# Altium integrated library Maxim Microcontroller.IntLib: 169 symbols (part 4 of 6)
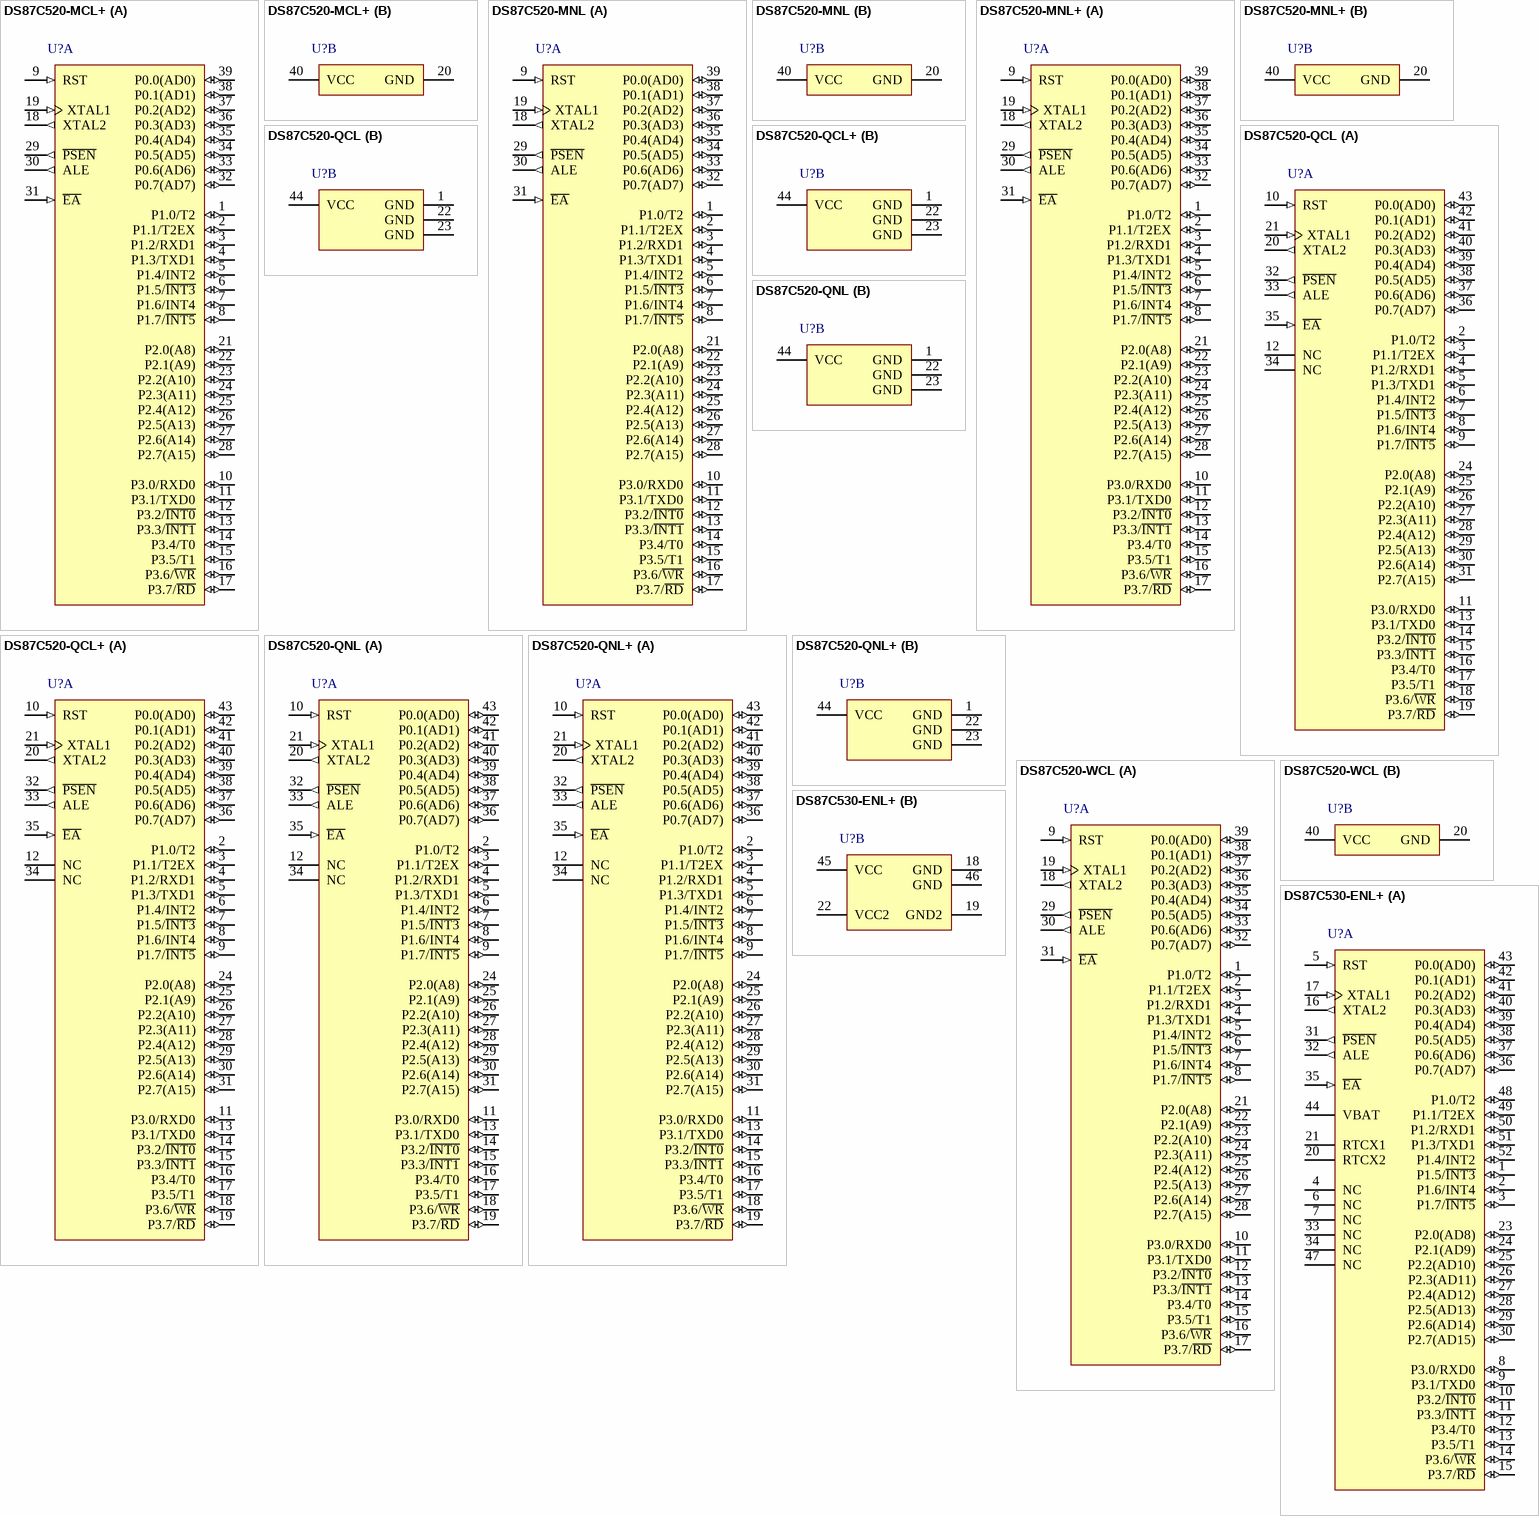
[diagram p27: symbols DS87C520-MCL+ to DS87C530-ENL+]

## DS87C520-QCL
designator U?
8-bit EPROM/ROM High-Speed Microcontroller, 33 MHz Max. Clock Speed, 44-pin PLCC, 0° to + 70° C; DatasheetVersion: 1/05/2009; PackageVersion: revE, 2009; PackageReference: Q44-9; PackageDescription: 44-Pin Plastic Leaded Chip Carrier 1.27 mm Pitch, PLCC; Code_JEDEC: MO-047-AC; Code_IPC: PLCC-44; ComponentLink1Description: Manufacturer URL; ComponentLink1URL: www.maxim-ic.com; ComponentLink2Description: Datasheet; ComponentLink2URL: http://datasheets.maxim-ic.com/en/ds/DS83C520-DS87C520.pdf
footprint Q44-9_N (Leaded Chip Carrier, 44-Leads, Body 16.6x16.6mm, Pitch 1.27mm, IPC Medium Density)
footprint Q44-9_L (Leaded Chip Carrier, 44-Leads, Body 16.6x16.6mm, Pitch 1.27mm, IPC High Density)
footprint Q44-9_M (Leaded Chip Carrier, 44-Leads, Body 16.6x16.6mm, Pitch 1.27mm, IPC Low Density)
part A pins: 2 P1.0/T2 (io), 3 P1.1/T2EX (io), 4 P1.2/RXD1 (io), 5 P1.3/TXD1 (io), 6 P1.4/INT2 (io), 7 P1.5/~{INT3} (io), 8 P1.6/INT4 (io), 9 P1.7/~{INT5} (io), 10 RST (in), 11 P3.0/RXD0 (io), 12 NC, 13 P3.1/TXD0 (io), 14 P3.2/~{INT0} (io), 15 P3.3/~{INT1} (io), 16 P3.4/T0 (io), 17 P3.5/T1 (io), 18 P3.6/~{WR} (io), 19 P3.7/~{RD} (io), 20 XTAL2 (out), 21 XTAL1 (in), 24 P2.0(A8) (io), 25 P2.1(A9) (io), 26 P2.2(A10) (io), 27 P2.3(A11) (io), 28 P2.4(A12) (io), 29 P2.5(A13) (io), 30 P2.6(A14) (io), 31 P2.7(A15) (io), 32 ~{PSEN} (out), 33 ALE (out), 34 NC, 35 ~{EA} (in), 36 P0.7(AD7) (io), 37 P0.6(AD6) (io), 38 P0.5(AD5) (io), 39 P0.4(AD4) (io), 40 P0.3(AD3) (io), 41 P0.2(AD2) (io), 42 P0.1(AD1) (io), 43 P0.0(AD0) (io)
part B pins: 1 GND (power), 22 GND (power), 23 GND (power), 44 VCC (power)

## DS87C520-QCL+
designator U?
8-bit EPROM/ROM High-Speed Microcontroller, 33 MHz Max. Clock Speed, 44-pin PLCC, 0° to + 70° C, Pb-Free; DatasheetVersion: 1/05/2009; PackageVersion: revE, 2009; PackageReference: Q44+9; PackageDescription: 44-Pin Plastic Leaded Chip Carrier 1.27 mm Pitch, PLCC, Pb-Free; Code_JEDEC: MO-047-AC; Code_IPC: PLCC-44; ComponentLink1Description: Manufacturer URL; ComponentLink1URL: www.maxim-ic.com; ComponentLink2Description: Datasheet; ComponentLink2URL: http://datasheets.maxim-ic.com/en/ds/DS83C520-DS87C520.pdf
footprint Q44+9_N (Leaded Chip Carrier, 44-Leads, Body 16.6x16.6mm, Pitch 1.27mm, IPC Medium Density)
footprint Q44+9_L (Leaded Chip Carrier, 44-Leads, Body 16.6x16.6mm, Pitch 1.27mm, IPC High Density)
footprint Q44+9_M (Leaded Chip Carrier, 44-Leads, Body 16.6x16.6mm, Pitch 1.27mm, IPC Low Density)
part A pins: 2 P1.0/T2 (io), 3 P1.1/T2EX (io), 4 P1.2/RXD1 (io), 5 P1.3/TXD1 (io), 6 P1.4/INT2 (io), 7 P1.5/~{INT3} (io), 8 P1.6/INT4 (io), 9 P1.7/~{INT5} (io), 10 RST (in), 11 P3.0/RXD0 (io), 12 NC, 13 P3.1/TXD0 (io), 14 P3.2/~{INT0} (io), 15 P3.3/~{INT1} (io), 16 P3.4/T0 (io), 17 P3.5/T1 (io), 18 P3.6/~{WR} (io), 19 P3.7/~{RD} (io), 20 XTAL2 (out), 21 XTAL1 (in), 24 P2.0(A8) (io), 25 P2.1(A9) (io), 26 P2.2(A10) (io), 27 P2.3(A11) (io), 28 P2.4(A12) (io), 29 P2.5(A13) (io), 30 P2.6(A14) (io), 31 P2.7(A15) (io), 32 ~{PSEN} (out), 33 ALE (out), 34 NC, 35 ~{EA} (in), 36 P0.7(AD7) (io), 37 P0.6(AD6) (io), 38 P0.5(AD5) (io), 39 P0.4(AD4) (io), 40 P0.3(AD3) (io), 41 P0.2(AD2) (io), 42 P0.1(AD1) (io), 43 P0.0(AD0) (io)
part B pins: 1 GND (power), 22 GND (power), 23 GND (power), 44 VCC (power)

## DS87C520-QNL
designator U?
8-bit EPROM/ROM High-Speed Microcontroller, 33 MHz Max. Clock Speed, 44-pin PLCC, -40° to + 85° C; DatasheetVersion: 1/05/2009; PackageVersion: revE, 2009; PackageReference: Q44-9; PackageDescription: 44-Pin Plastic Leaded Chip Carrier 1.27 mm Pitch, PLCC; Code_JEDEC: MO-047-AC; Code_IPC: PLCC-44; ComponentLink1Description: Manufacturer URL; ComponentLink1URL: www.maxim-ic.com; ComponentLink2Description: Datasheet; ComponentLink2URL: http://datasheets.maxim-ic.com/en/ds/DS83C520-DS87C520.pdf
footprint Q44-9_N (Leaded Chip Carrier, 44-Leads, Body 16.6x16.6mm, Pitch 1.27mm, IPC Medium Density)
footprint Q44-9_L (Leaded Chip Carrier, 44-Leads, Body 16.6x16.6mm, Pitch 1.27mm, IPC High Density)
footprint Q44-9_M (Leaded Chip Carrier, 44-Leads, Body 16.6x16.6mm, Pitch 1.27mm, IPC Low Density)
part A pins: 2 P1.0/T2 (io), 3 P1.1/T2EX (io), 4 P1.2/RXD1 (io), 5 P1.3/TXD1 (io), 6 P1.4/INT2 (io), 7 P1.5/~{INT3} (io), 8 P1.6/INT4 (io), 9 P1.7/~{INT5} (io), 10 RST (in), 11 P3.0/RXD0 (io), 12 NC, 13 P3.1/TXD0 (io), 14 P3.2/~{INT0} (io), 15 P3.3/~{INT1} (io), 16 P3.4/T0 (io), 17 P3.5/T1 (io), 18 P3.6/~{WR} (io), 19 P3.7/~{RD} (io), 20 XTAL2 (out), 21 XTAL1 (in), 24 P2.0(A8) (io), 25 P2.1(A9) (io), 26 P2.2(A10) (io), 27 P2.3(A11) (io), 28 P2.4(A12) (io), 29 P2.5(A13) (io), 30 P2.6(A14) (io), 31 P2.7(A15) (io), 32 ~{PSEN} (out), 33 ALE (out), 34 NC, 35 ~{EA} (in), 36 P0.7(AD7) (io), 37 P0.6(AD6) (io), 38 P0.5(AD5) (io), 39 P0.4(AD4) (io), 40 P0.3(AD3) (io), 41 P0.2(AD2) (io), 42 P0.1(AD1) (io), 43 P0.0(AD0) (io)
part B pins: 1 GND (power), 22 GND (power), 23 GND (power), 44 VCC (power)

## DS87C520-QNL+
designator U?
8-bit EPROM/ROM High-Speed Microcontroller, 33 MHz Max. Clock Speed, 44-pin PLCC, -40° to + 85° C, Pb-Free; DatasheetVersion: 1/05/2009; PackageVersion: revE, 2009; PackageReference: Q44+9; PackageDescription: 44-Pin Plastic Leaded Chip Carrier 1.27 mm Pitch, PLCC, Pb-Free; Code_JEDEC: MO-047-AC; Code_IPC: PLCC-44; ComponentLink1Description: Manufacturer URL; ComponentLink1URL: www.maxim-ic.com; ComponentLink2Description: Datasheet; ComponentLink2URL: http://datasheets.maxim-ic.com/en/ds/DS83C520-DS87C520.pdf
footprint Q44+9_N (Leaded Chip Carrier, 44-Leads, Body 16.6x16.6mm, Pitch 1.27mm, IPC Medium Density)
footprint Q44+9_L (Leaded Chip Carrier, 44-Leads, Body 16.6x16.6mm, Pitch 1.27mm, IPC High Density)
footprint Q44+9_M (Leaded Chip Carrier, 44-Leads, Body 16.6x16.6mm, Pitch 1.27mm, IPC Low Density)
part A pins: 2 P1.0/T2 (io), 3 P1.1/T2EX (io), 4 P1.2/RXD1 (io), 5 P1.3/TXD1 (io), 6 P1.4/INT2 (io), 7 P1.5/~{INT3} (io), 8 P1.6/INT4 (io), 9 P1.7/~{INT5} (io), 10 RST (in), 11 P3.0/RXD0 (io), 12 NC, 13 P3.1/TXD0 (io), 14 P3.2/~{INT0} (io), 15 P3.3/~{INT1} (io), 16 P3.4/T0 (io), 17 P3.5/T1 (io), 18 P3.6/~{WR} (io), 19 P3.7/~{RD} (io), 20 XTAL2 (out), 21 XTAL1 (in), 24 P2.0(A8) (io), 25 P2.1(A9) (io), 26 P2.2(A10) (io), 27 P2.3(A11) (io), 28 P2.4(A12) (io), 29 P2.5(A13) (io), 30 P2.6(A14) (io), 31 P2.7(A15) (io), 32 ~{PSEN} (out), 33 ALE (out), 34 NC, 35 ~{EA} (in), 36 P0.7(AD7) (io), 37 P0.6(AD6) (io), 38 P0.5(AD5) (io), 39 P0.4(AD4) (io), 40 P0.3(AD3) (io), 41 P0.2(AD2) (io), 42 P0.1(AD1) (io), 43 P0.0(AD0) (io)
part B pins: 1 GND (power), 22 GND (power), 23 GND (power), 44 VCC (power)

## DS87C520-WCL
designator U?
8-bit EPROM/ROM High-Speed Microcontroller, 33 MHz Max. Clock Speed, 40-pin Windowed CERDIP, 0° to + 70° C; DatasheetVersion: 1/05/2009; PackageVersion: revB, 2009; PackageReference: J40-5; PackageDescription: 40-Lead Ceramic Dual-In-Line with Glass Lens, 0.6in Wide, CDIP(W); ComponentLink1Description: Manufacturer URL; ComponentLink1URL: www.maxim-ic.com; ComponentLink2Description: Datasheet; ComponentLink2URL: http://datasheets.maxim-ic.com/en/ds/DS83C520-DS87C520.pdf
footprint J40-5 (DIP, 40-Leads, Row Spacing 15.24mm, Pitch 2.54mm, Body 53.2x14.4mm, Window)
part A pins: 1 P1.0/T2 (io), 2 P1.1/T2EX (io), 3 P1.2/RXD1 (io), 4 P1.3/TXD1 (io), 5 P1.4/INT2 (io), 6 P1.5/~{INT3} (io), 7 P1.6/INT4 (io), 8 P1.7/~{INT5} (io), 9 RST (in), 10 P3.0/RXD0 (io), 11 P3.1/TXD0 (io), 12 P3.2/~{INT0} (io), 13 P3.3/~{INT1} (io), 14 P3.4/T0 (io), 15 P3.5/T1 (io), 16 P3.6/~{WR} (io), 17 P3.7/~{RD} (io), 18 XTAL2 (out), 19 XTAL1 (in), 21 P2.0(A8) (io), 22 P2.1(A9) (io), 23 P2.2(A10) (io), 24 P2.3(A11) (io), 25 P2.4(A12) (io), 26 P2.5(A13) (io), 27 P2.6(A14) (io), 28 P2.7(A15) (io), 29 ~{PSEN} (out), 30 ALE (out), 31 ~{EA} (in), 32 P0.7(AD7) (io), 33 P0.6(AD6) (io), 34 P0.5(AD5) (io), 35 P0.4(AD4) (io), 36 P0.3(AD3) (io), 37 P0.2(AD2) (io), 38 P0.1(AD1) (io), 39 P0.0(AD0) (io)
part B pins: 20 GND (power), 40 VCC (power)

## DS87C530-ENL+
designator U?
8-bit EPROM/ROM Microcontroller with Real-Time Clock, 33 MHz Max. Clock Speed, 52-pin TQFP, -40° to + 85° C, Pb-Free; DatasheetVersion: 1/05/2009; PackageVersion: revB, 2009; PackageReference: C52+2; PackageDescription: 52-Pin Thin Quad Flat Pack, 10x10x1.0mm Body, 1.0/0.1mm Form, TQFP, Pb-Free; Code_JEDEC: MS-026-ACC; ComponentLink1Description: Manufacturer URL; ComponentLink1URL: www.maxim-ic.com; ComponentLink2Description: Datasheet; ComponentLink2URL: http://datasheets.maxim-ic.com/en/ds/DS83C530-DS87C530.pdf
footprint C52+2_N (Thin QFP, 52-Leads, Body 10 x 10mm, Pitch 0.65mm, IPC Medium Density)
footprint C52+2_L (Thin QFP, 52-Leads, Body 10 x 10mm, Pitch 0.65mm, IPC High Density)
footprint C52+2_M (Thin QFP, 52-Leads, Body 10 x 10mm, Pitch 0.65mm, IPC Low Density)
part A pins: 1 P1.5/~{INT3} (io), 2 P1.6/INT4 (io), 3 P1.7/~{INT5} (io), 4 NC, 5 RST (in), 6 NC, 7 NC, 8 P3.0/RXD0 (io), 9 P3.1/TXD0 (io), 10 P3.2/~{INT0} (io), 11 P3.3/~{INT1} (io), 12 P3.4/T0 (io), 13 P3.5/T1 (io), 14 P3.6/~{WR} (io), 15 P3.7/~{RD} (io), 16 XTAL2 (out), 17 XTAL1 (in), 20 RTCX2, 21 RTCX1, 23 P2.0(AD8) (io), 24 P2.1(AD9) (io), 25 P2.2(AD10) (io), 26 P2.3(AD11) (io), 27 P2.4(AD12) (io), 28 P2.5(AD13) (io), 29 P2.6(AD14) (io), 30 P2.7(AD15) (io), 31 ~{PSEN} (out), 32 ALE (out), 33 NC, 34 NC, 35 ~{EA} (in), 36 P0.7(AD7) (io), 37 P0.6(AD6) (io), 38 P0.5(AD5) (io), 39 P0.4(AD4) (io), 40 P0.3(AD3) (io), 41 P0.2(AD2) (io), 42 P0.1(AD1) (io), 43 P0.0(AD0) (io), 44 VBAT, 47 NC, 48 P1.0/T2 (io), 49 P1.1/T2EX (io), 50 P1.2/RXD1 (io), 51 P1.3/TXD1 (io), 52 P1.4/INT2 (io)
part B pins: 18 GND (power), 19 GND2 (power), 22 VCC2 (power), 45 VCC (power), 46 GND (power)

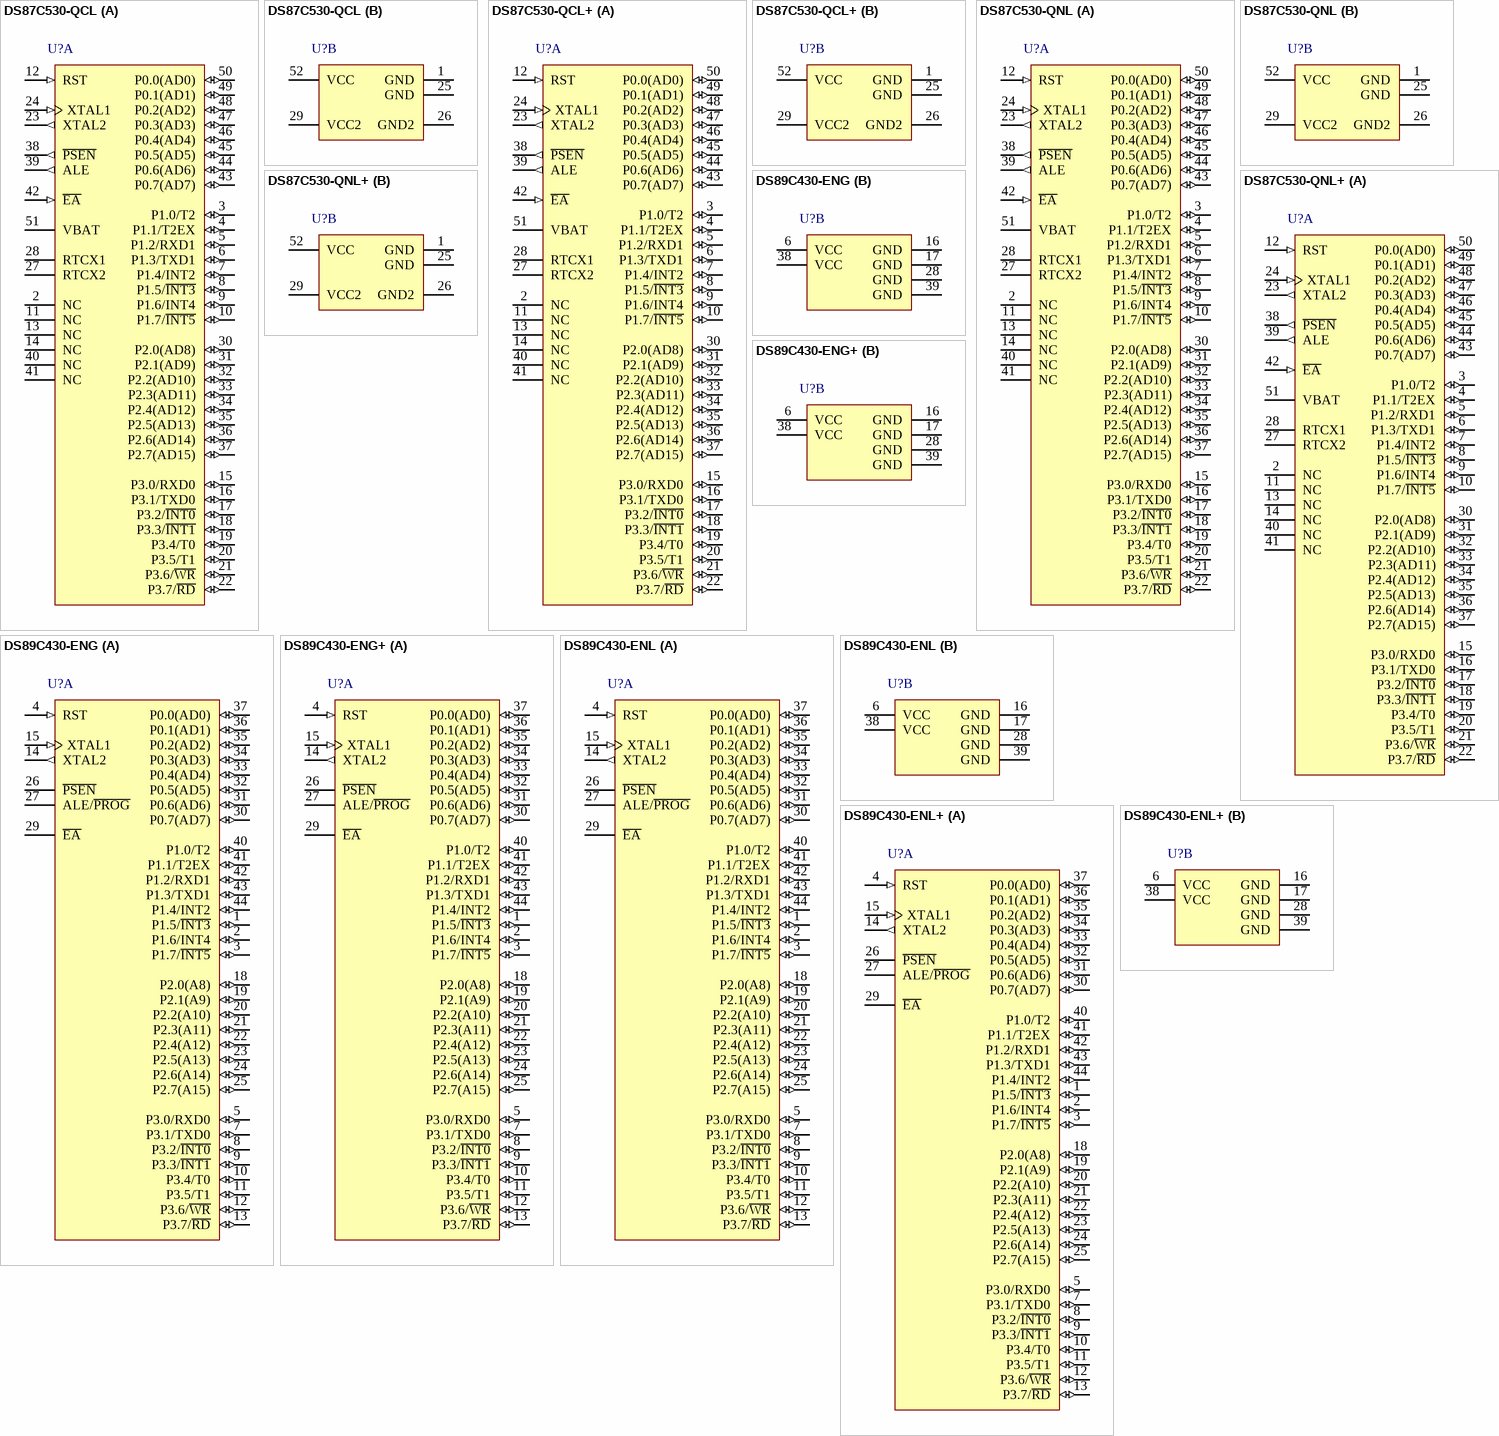
[diagram p13: symbols DS87C530-QCL to DS89C430-ENL+]

## DS87C530-QCL
designator U?
8-bit EPROM/ROM Microcontroller with Real-Time Clock, 33 MHz Max. Clock Speed, 52-pin PLCC, 0° to + 70° C; DatasheetVersion: 1/05/2009; PackageVersion: revE, 2009; PackageReference: Q52-1; PackageDescription: 52-Pin Plastic Leaded Chip Carrier 1.27 mm Pitch, PLCC; Code_JEDEC: MO-047-AD; ComponentLink1Description: Manufacturer URL; ComponentLink1URL: www.maxim-ic.com; ComponentLink2Description: Datasheet; ComponentLink2URL: http://datasheets.maxim-ic.com/en/ds/DS83C530-DS87C530.pdf
footprint Q52-1_N (Leaded Chip Carrier, 52-Leads, Body 19.1x19.1mm, Pitch 1.27mm, IPC Medium Density)
footprint Q52-1_L (Leaded Chip Carrier, 52-Leads, Body 19.1x19.1mm, Pitch 1.27mm, IPC High Density)
footprint Q52-1_M (Leaded Chip Carrier, 52-Leads, Body 19.1x19.1mm, Pitch 1.27mm, IPC Low Density)
part A pins: 2 NC, 3 P1.0/T2 (io), 4 P1.1/T2EX (io), 5 P1.2/RXD1 (io), 6 P1.3/TXD1 (io), 7 P1.4/INT2 (io), 8 P1.5/~{INT3} (io), 9 P1.6/INT4 (io), 10 P1.7/~{INT5} (io), 11 NC, 12 RST (in), 13 NC, 14 NC, 15 P3.0/RXD0 (io), 16 P3.1/TXD0 (io), 17 P3.2/~{INT0} (io), 18 P3.3/~{INT1} (io), 19 P3.4/T0 (io), 20 P3.5/T1 (io), 21 P3.6/~{WR} (io), 22 P3.7/~{RD} (io), 23 XTAL2 (out), 24 XTAL1 (in), 27 RTCX2, 28 RTCX1, 30 P2.0(AD8) (io), 31 P2.1(AD9) (io), 32 P2.2(AD10) (io), 33 P2.3(AD11) (io), 34 P2.4(AD12) (io), 35 P2.5(AD13) (io), 36 P2.6(AD14) (io), 37 P2.7(AD15) (io), 38 ~{PSEN} (out), 39 ALE (out), 40 NC, 41 NC, 42 ~{EA} (in), 43 P0.7(AD7) (io), 44 P0.6(AD6) (io), 45 P0.5(AD5) (io), 46 P0.4(AD4) (io), 47 P0.3(AD3) (io), 48 P0.2(AD2) (io), 49 P0.1(AD1) (io), 50 P0.0(AD0) (io), 51 VBAT
part B pins: 1 GND (power), 25 GND (power), 26 GND2 (power), 29 VCC2 (power), 52 VCC (power)

## DS87C530-QCL+
designator U?
8-bit EPROM/ROM Microcontroller with Real-Time Clock, 33 MHz Max. Clock Speed, 52-pin PLCC, 0° to + 70° C, Pb-Free; DatasheetVersion: 1/05/2009; PackageVersion: revE, 2009; PackageReference: Q52+1; PackageDescription: 52-Pin Plastic Leaded Chip Carrier 1.27 mm Pitch, PLCC, Pb-Free; Code_JEDEC: MO-047-AD; ComponentLink1Description: Manufacturer URL; ComponentLink1URL: www.maxim-ic.com; ComponentLink2Description: Datasheet; ComponentLink2URL: http://datasheets.maxim-ic.com/en/ds/DS83C530-DS87C530.pdf
footprint Q52+1_N (Leaded Chip Carrier, 52-Leads, Body 19.1x19.1mm, Pitch 1.27mm, IPC Medium Density)
footprint Q52+1_L (Leaded Chip Carrier, 52-Leads, Body 19.1x19.1mm, Pitch 1.27mm, IPC High Density)
footprint Q52+1_M (Leaded Chip Carrier, 52-Leads, Body 19.1x19.1mm, Pitch 1.27mm, IPC Low Density)
part A pins: 2 NC, 3 P1.0/T2 (io), 4 P1.1/T2EX (io), 5 P1.2/RXD1 (io), 6 P1.3/TXD1 (io), 7 P1.4/INT2 (io), 8 P1.5/~{INT3} (io), 9 P1.6/INT4 (io), 10 P1.7/~{INT5} (io), 11 NC, 12 RST (in), 13 NC, 14 NC, 15 P3.0/RXD0 (io), 16 P3.1/TXD0 (io), 17 P3.2/~{INT0} (io), 18 P3.3/~{INT1} (io), 19 P3.4/T0 (io), 20 P3.5/T1 (io), 21 P3.6/~{WR} (io), 22 P3.7/~{RD} (io), 23 XTAL2 (out), 24 XTAL1 (in), 27 RTCX2, 28 RTCX1, 30 P2.0(AD8) (io), 31 P2.1(AD9) (io), 32 P2.2(AD10) (io), 33 P2.3(AD11) (io), 34 P2.4(AD12) (io), 35 P2.5(AD13) (io), 36 P2.6(AD14) (io), 37 P2.7(AD15) (io), 38 ~{PSEN} (out), 39 ALE (out), 40 NC, 41 NC, 42 ~{EA} (in), 43 P0.7(AD7) (io), 44 P0.6(AD6) (io), 45 P0.5(AD5) (io), 46 P0.4(AD4) (io), 47 P0.3(AD3) (io), 48 P0.2(AD2) (io), 49 P0.1(AD1) (io), 50 P0.0(AD0) (io), 51 VBAT
part B pins: 1 GND (power), 25 GND (power), 26 GND2 (power), 29 VCC2 (power), 52 VCC (power)

## DS87C530-QNL
designator U?
8-bit EPROM/ROM Microcontroller with Real-Time Clock, 33 MHz Max. Clock Speed, 52-pin PLCC, -40° to + 85° C; DatasheetVersion: 1/05/2009; PackageVersion: revE, 2009; PackageReference: Q52-1; PackageDescription: 52-Pin Plastic Leaded Chip Carrier 1.27 mm Pitch, PLCC; Code_JEDEC: MO-047-AD; ComponentLink1Description: Manufacturer URL; ComponentLink1URL: www.maxim-ic.com; ComponentLink2Description: Datasheet; ComponentLink2URL: http://datasheets.maxim-ic.com/en/ds/DS83C530-DS87C530.pdf
footprint Q52-1_N (Leaded Chip Carrier, 52-Leads, Body 19.1x19.1mm, Pitch 1.27mm, IPC Medium Density)
footprint Q52-1_L (Leaded Chip Carrier, 52-Leads, Body 19.1x19.1mm, Pitch 1.27mm, IPC High Density)
footprint Q52-1_M (Leaded Chip Carrier, 52-Leads, Body 19.1x19.1mm, Pitch 1.27mm, IPC Low Density)
part A pins: 2 NC, 3 P1.0/T2 (io), 4 P1.1/T2EX (io), 5 P1.2/RXD1 (io), 6 P1.3/TXD1 (io), 7 P1.4/INT2 (io), 8 P1.5/~{INT3} (io), 9 P1.6/INT4 (io), 10 P1.7/~{INT5} (io), 11 NC, 12 RST (in), 13 NC, 14 NC, 15 P3.0/RXD0 (io), 16 P3.1/TXD0 (io), 17 P3.2/~{INT0} (io), 18 P3.3/~{INT1} (io), 19 P3.4/T0 (io), 20 P3.5/T1 (io), 21 P3.6/~{WR} (io), 22 P3.7/~{RD} (io), 23 XTAL2 (out), 24 XTAL1 (in), 27 RTCX2, 28 RTCX1, 30 P2.0(AD8) (io), 31 P2.1(AD9) (io), 32 P2.2(AD10) (io), 33 P2.3(AD11) (io), 34 P2.4(AD12) (io), 35 P2.5(AD13) (io), 36 P2.6(AD14) (io), 37 P2.7(AD15) (io), 38 ~{PSEN} (out), 39 ALE (out), 40 NC, 41 NC, 42 ~{EA} (in), 43 P0.7(AD7) (io), 44 P0.6(AD6) (io), 45 P0.5(AD5) (io), 46 P0.4(AD4) (io), 47 P0.3(AD3) (io), 48 P0.2(AD2) (io), 49 P0.1(AD1) (io), 50 P0.0(AD0) (io), 51 VBAT
part B pins: 1 GND (power), 25 GND (power), 26 GND2 (power), 29 VCC2 (power), 52 VCC (power)

## DS87C530-QNL+
designator U?
8-bit EPROM/ROM Microcontroller with Real-Time Clock, 33 MHz Max. Clock Speed, 52-pin PLCC, -40° to + 85° C, Pb-Free; DatasheetVersion: 1/05/2009; PackageVersion: revE, 2009; PackageReference: Q52+1; PackageDescription: 52-Pin Plastic Leaded Chip Carrier 1.27 mm Pitch, PLCC, Pb-Free; Code_JEDEC: MO-047-AD; ComponentLink1Description: Manufacturer URL; ComponentLink1URL: www.maxim-ic.com; ComponentLink2Description: Datasheet; ComponentLink2URL: http://datasheets.maxim-ic.com/en/ds/DS83C530-DS87C530.pdf
footprint Q52+1_N (Leaded Chip Carrier, 52-Leads, Body 19.1x19.1mm, Pitch 1.27mm, IPC Medium Density)
footprint Q52+1_L (Leaded Chip Carrier, 52-Leads, Body 19.1x19.1mm, Pitch 1.27mm, IPC High Density)
footprint Q52+1_M (Leaded Chip Carrier, 52-Leads, Body 19.1x19.1mm, Pitch 1.27mm, IPC Low Density)
part A pins: 2 NC, 3 P1.0/T2 (io), 4 P1.1/T2EX (io), 5 P1.2/RXD1 (io), 6 P1.3/TXD1 (io), 7 P1.4/INT2 (io), 8 P1.5/~{INT3} (io), 9 P1.6/INT4 (io), 10 P1.7/~{INT5} (io), 11 NC, 12 RST (in), 13 NC, 14 NC, 15 P3.0/RXD0 (io), 16 P3.1/TXD0 (io), 17 P3.2/~{INT0} (io), 18 P3.3/~{INT1} (io), 19 P3.4/T0 (io), 20 P3.5/T1 (io), 21 P3.6/~{WR} (io), 22 P3.7/~{RD} (io), 23 XTAL2 (out), 24 XTAL1 (in), 27 RTCX2, 28 RTCX1, 30 P2.0(AD8) (io), 31 P2.1(AD9) (io), 32 P2.2(AD10) (io), 33 P2.3(AD11) (io), 34 P2.4(AD12) (io), 35 P2.5(AD13) (io), 36 P2.6(AD14) (io), 37 P2.7(AD15) (io), 38 ~{PSEN} (out), 39 ALE (out), 40 NC, 41 NC, 42 ~{EA} (in), 43 P0.7(AD7) (io), 44 P0.6(AD6) (io), 45 P0.5(AD5) (io), 46 P0.4(AD4) (io), 47 P0.3(AD3) (io), 48 P0.2(AD2) (io), 49 P0.1(AD1) (io), 50 P0.0(AD0) (io), 51 VBAT
part B pins: 1 GND (power), 25 GND (power), 26 GND2 (power), 29 VCC2 (power), 52 VCC (power)

## DS89C430-ENG
designator U?
8-bit Ultra-High-Speed Flash Microcontroller, 25 MHz Max. Clock Speed, 44-pin TQFP, -40° to + 85° C; DatasheetVersion: 1/05/2009; PackageVersion: revB, 2010; PackageReference: C44-2; PackageDescription: 44-Pin Thin Quad Flatpack, 10 x 10 x 1.0 mm Body, 0.8 mm Pitch, TQFP; ComponentLink1Description: Manufacturer URL; ComponentLink1URL: www.maxim-ic.com; ComponentLink2Description: Datasheet; ComponentLink2URL: http://datasheets.maxim-ic.com/en/ds/DS89C430-DS89C450.pdf
footprint C44-2_N (Thin QFP, 44-Leads, Body 10x10mm, Pitch 0.8mm, IPC Medium Density)
footprint C44-2_L (Thin QFP, 44-Leads, Body 10x10mm, Pitch 0.8mm, IPC High Density)
footprint C44-2_M (Thin QFP, 44-Leads, Body 10x10mm, Pitch 0.8mm, IPC Low Density)
part A pins: 1 P1.5/~{INT3} (io), 2 P1.6/INT4 (io), 3 P1.7/~{INT5} (io), 4 RST (in), 5 P3.0/RXD0 (io), 7 P3.1/TXD0 (io), 8 P3.2/~{INT0} (io), 9 P3.3/~{INT1} (io), 10 P3.4/T0 (io), 11 P3.5/T1 (io), 12 P3.6/~{WR} (io), 13 P3.7/~{RD} (io), 14 XTAL2 (out), 15 XTAL1 (in), 18 P2.0(A8) (io), 19 P2.1(A9) (io), 20 P2.2(A10) (io), 21 P2.3(A11) (io), 22 P2.4(A12) (io), 23 P2.5(A13) (io), 24 P2.6(A14) (io), 25 P2.7(A15) (io), 26 ~{PSEN}, 27 ALE/~{PROG}, 29 ~{EA}, 30 P0.7(AD7) (io), 31 P0.6(AD6) (io), 32 P0.5(AD5) (io), 33 P0.4(AD4) (io), 34 P0.3(AD3) (io), 35 P0.2(AD2) (io), 36 P0.1(AD1) (io), 37 P0.0(AD0) (io), 40 P1.0/T2 (io), 41 P1.1/T2EX (io), 42 P1.2/RXD1 (io), 43 P1.3/TXD1 (io), 44 P1.4/INT2 (io)
part B pins: 6 VCC (power), 16 GND (power), 17 GND (power), 28 GND (power), 38 VCC (power), 39 GND (power)

## DS89C430-ENG+
designator U?
8-bit Ultra-High-Speed Flash Microcontroller, 25 MHz Max. Clock Speed, 44-pin TQFP, -40° to + 85° C, Pb-Free; DatasheetVersion: 1/05/2009; PackageVersion: revB, 2010; PackageReference: C44+2; PackageDescription: 44-Pin Thin Quad Flatpack, 10 x 10 x 1.0 mm Body, 0.8 mm Pitch, TQFP, Pb-Free; ComponentLink1Description: Manufacturer URL; ComponentLink1URL: www.maxim-ic.com; ComponentLink2Description: Datasheet; ComponentLink2URL: http://datasheets.maxim-ic.com/en/ds/DS89C430-DS89C450.pdf
footprint C44+2_N (Thin QFP, 44-Leads, Body 10x10mm, Pitch 0.8mm, IPC Medium Density)
footprint C44+2_L (Thin QFP, 44-Leads, Body 10x10mm, Pitch 0.8mm, IPC High Density)
footprint C44+2_M (Thin QFP, 44-Leads, Body 10x10mm, Pitch 0.8mm, IPC Low Density)
part A pins: 1 P1.5/~{INT3} (io), 2 P1.6/INT4 (io), 3 P1.7/~{INT5} (io), 4 RST (in), 5 P3.0/RXD0 (io), 7 P3.1/TXD0 (io), 8 P3.2/~{INT0} (io), 9 P3.3/~{INT1} (io), 10 P3.4/T0 (io), 11 P3.5/T1 (io), 12 P3.6/~{WR} (io), 13 P3.7/~{RD} (io), 14 XTAL2 (out), 15 XTAL1 (in), 18 P2.0(A8) (io), 19 P2.1(A9) (io), 20 P2.2(A10) (io), 21 P2.3(A11) (io), 22 P2.4(A12) (io), 23 P2.5(A13) (io), 24 P2.6(A14) (io), 25 P2.7(A15) (io), 26 ~{PSEN}, 27 ALE/~{PROG}, 29 ~{EA}, 30 P0.7(AD7) (io), 31 P0.6(AD6) (io), 32 P0.5(AD5) (io), 33 P0.4(AD4) (io), 34 P0.3(AD3) (io), 35 P0.2(AD2) (io), 36 P0.1(AD1) (io), 37 P0.0(AD0) (io), 40 P1.0/T2 (io), 41 P1.1/T2EX (io), 42 P1.2/RXD1 (io), 43 P1.3/TXD1 (io), 44 P1.4/INT2 (io)
part B pins: 6 VCC (power), 16 GND (power), 17 GND (power), 28 GND (power), 38 VCC (power), 39 GND (power)

## DS89C430-ENL
designator U?
8-bit Ultra-High-Speed Flash Microcontroller, 33 MHz Max. Clock Speed, 44-pin TQFP, -40° to + 85° C; DatasheetVersion: 1/05/2009; PackageVersion: revB, 2010; PackageReference: C44-2; PackageDescription: 44-Pin Thin Quad Flatpack, 10 x 10 x 1.0 mm Body, 0.8 mm Pitch, TQFP; ComponentLink1Description: Manufacturer URL; ComponentLink1URL: www.maxim-ic.com; ComponentLink2Description: Datasheet; ComponentLink2URL: http://datasheets.maxim-ic.com/en/ds/DS89C430-DS89C450.pdf
footprint C44-2_N (Thin QFP, 44-Leads, Body 10x10mm, Pitch 0.8mm, IPC Medium Density)
footprint C44-2_L (Thin QFP, 44-Leads, Body 10x10mm, Pitch 0.8mm, IPC High Density)
footprint C44-2_M (Thin QFP, 44-Leads, Body 10x10mm, Pitch 0.8mm, IPC Low Density)
part A pins: 1 P1.5/~{INT3} (io), 2 P1.6/INT4 (io), 3 P1.7/~{INT5} (io), 4 RST (in), 5 P3.0/RXD0 (io), 7 P3.1/TXD0 (io), 8 P3.2/~{INT0} (io), 9 P3.3/~{INT1} (io), 10 P3.4/T0 (io), 11 P3.5/T1 (io), 12 P3.6/~{WR} (io), 13 P3.7/~{RD} (io), 14 XTAL2 (out), 15 XTAL1 (in), 18 P2.0(A8) (io), 19 P2.1(A9) (io), 20 P2.2(A10) (io), 21 P2.3(A11) (io), 22 P2.4(A12) (io), 23 P2.5(A13) (io), 24 P2.6(A14) (io), 25 P2.7(A15) (io), 26 ~{PSEN}, 27 ALE/~{PROG}, 29 ~{EA}, 30 P0.7(AD7) (io), 31 P0.6(AD6) (io), 32 P0.5(AD5) (io), 33 P0.4(AD4) (io), 34 P0.3(AD3) (io), 35 P0.2(AD2) (io), 36 P0.1(AD1) (io), 37 P0.0(AD0) (io), 40 P1.0/T2 (io), 41 P1.1/T2EX (io), 42 P1.2/RXD1 (io), 43 P1.3/TXD1 (io), 44 P1.4/INT2 (io)
part B pins: 6 VCC (power), 16 GND (power), 17 GND (power), 28 GND (power), 38 VCC (power), 39 GND (power)

## DS89C430-ENL+
designator U?
8-bit Ultra-High-Speed Flash Microcontroller, 33 MHz Max. Clock Speed, 44-pin TQFP, -40° to + 85° C, Pb-Free; DatasheetVersion: 1/05/2009; PackageVersion: revB, 2010; PackageReference: C44+2; PackageDescription: 44-Pin Thin Quad Flatpack, 10 x 10 x 1.0 mm Body, 0.8 mm Pitch, TQFP, Pb-Free; ComponentLink1Description: Manufacturer URL; ComponentLink1URL: www.maxim-ic.com; ComponentLink2Description: Datasheet; ComponentLink2URL: http://datasheets.maxim-ic.com/en/ds/DS89C430-DS89C450.pdf
footprint C44+2_N (Thin QFP, 44-Leads, Body 10x10mm, Pitch 0.8mm, IPC Medium Density)
footprint C44+2_L (Thin QFP, 44-Leads, Body 10x10mm, Pitch 0.8mm, IPC High Density)
footprint C44+2_M (Thin QFP, 44-Leads, Body 10x10mm, Pitch 0.8mm, IPC Low Density)
part A pins: 1 P1.5/~{INT3} (io), 2 P1.6/INT4 (io), 3 P1.7/~{INT5} (io), 4 RST (in), 5 P3.0/RXD0 (io), 7 P3.1/TXD0 (io), 8 P3.2/~{INT0} (io), 9 P3.3/~{INT1} (io), 10 P3.4/T0 (io), 11 P3.5/T1 (io), 12 P3.6/~{WR} (io), 13 P3.7/~{RD} (io), 14 XTAL2 (out), 15 XTAL1 (in), 18 P2.0(A8) (io), 19 P2.1(A9) (io), 20 P2.2(A10) (io), 21 P2.3(A11) (io), 22 P2.4(A12) (io), 23 P2.5(A13) (io), 24 P2.6(A14) (io), 25 P2.7(A15) (io), 26 ~{PSEN}, 27 ALE/~{PROG}, 29 ~{EA}, 30 P0.7(AD7) (io), 31 P0.6(AD6) (io), 32 P0.5(AD5) (io), 33 P0.4(AD4) (io), 34 P0.3(AD3) (io), 35 P0.2(AD2) (io), 36 P0.1(AD1) (io), 37 P0.0(AD0) (io), 40 P1.0/T2 (io), 41 P1.1/T2EX (io), 42 P1.2/RXD1 (io), 43 P1.3/TXD1 (io), 44 P1.4/INT2 (io)
part B pins: 6 VCC (power), 16 GND (power), 17 GND (power), 28 GND (power), 38 VCC (power), 39 GND (power)

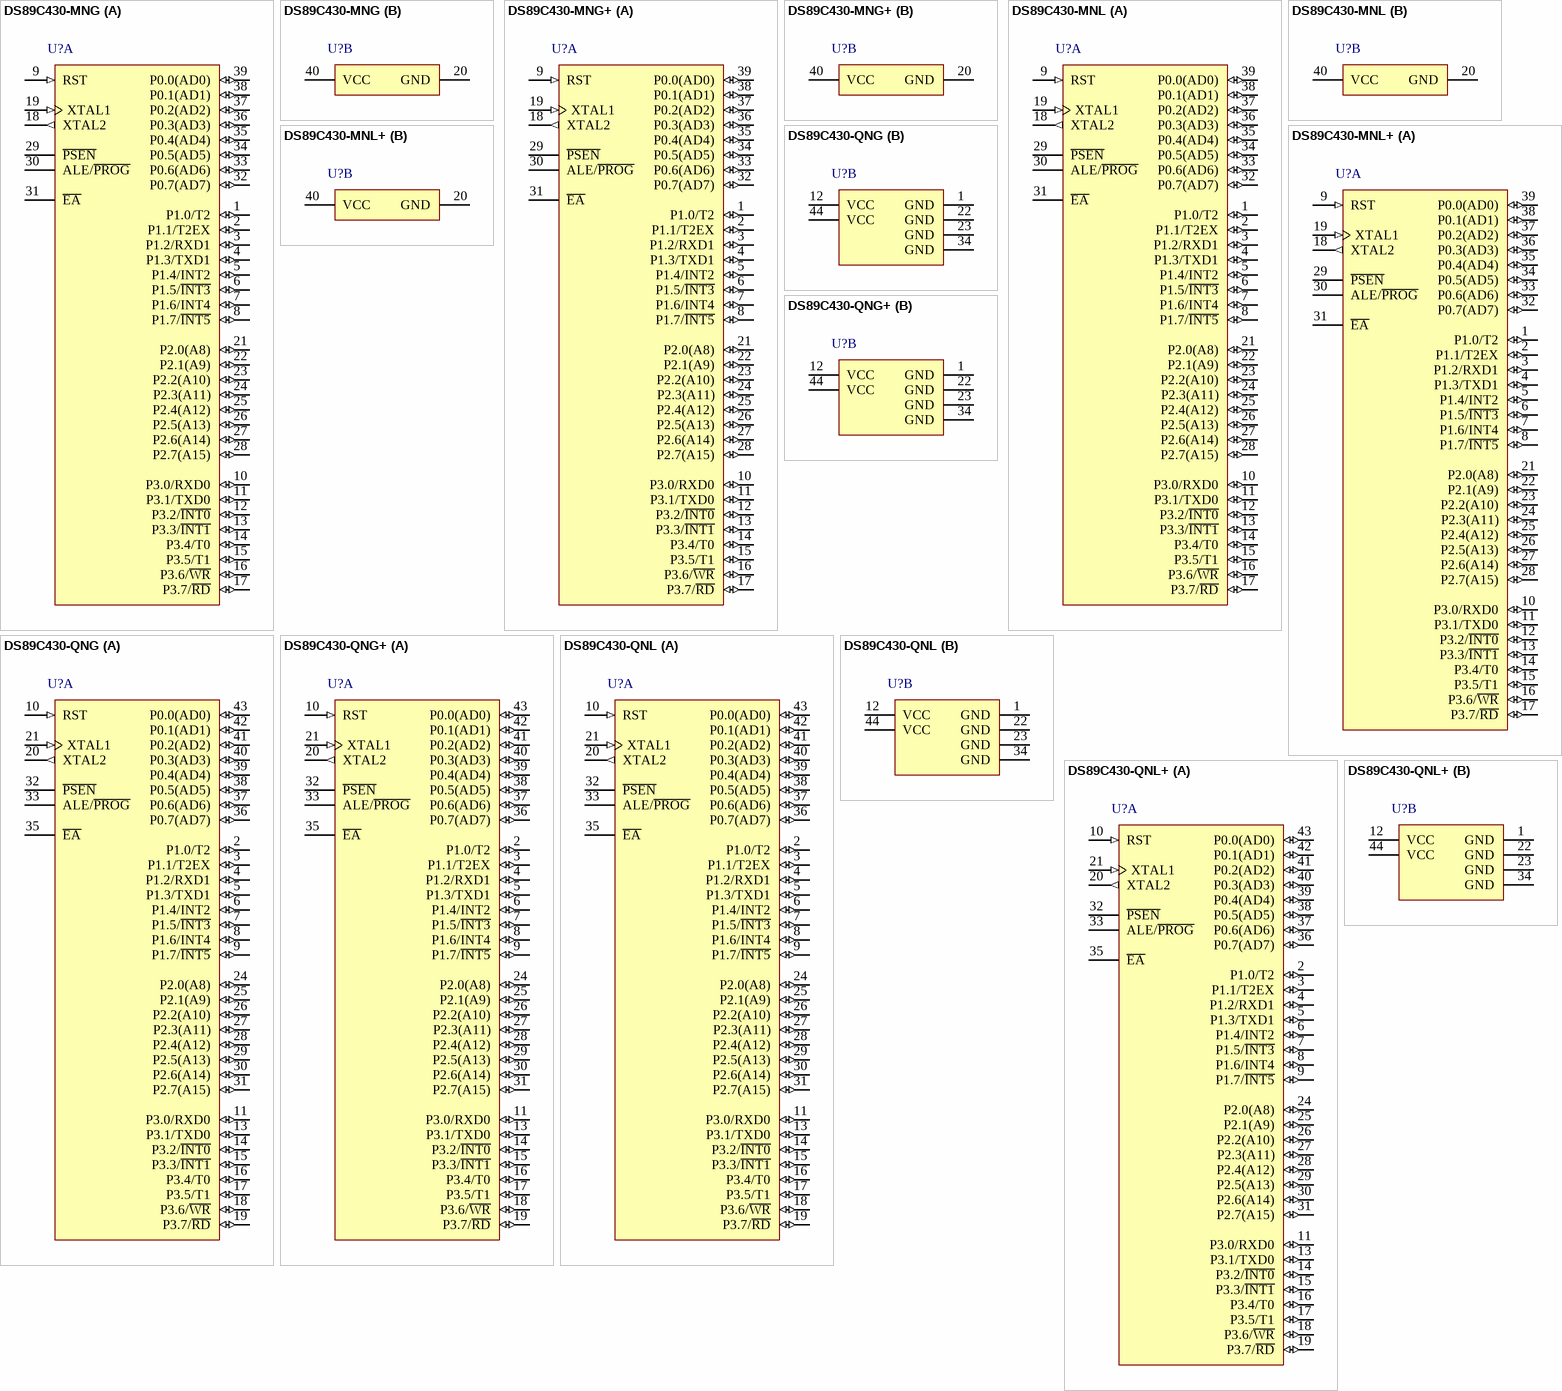
[diagram p14: symbols DS89C430-MNG to DS89C430-QNL+]

## DS89C430-MNG
designator U?
8-bit Ultra-High-Speed Flash Microcontroller, 25 MHz Max. Clock Speed, 40-pin PDIP, -40° to + 85° C; DatasheetVersion: 1/05/2009; PackageVersion: revD, 2011; PackageReference: P40-2; PackageDescription: 40-Pin Plastic Dual-In-Line, 0.6in Wide, PDIP(W); Code_JEDEC: MS-011-AC; ComponentLink1Description: Manufacturer URL; ComponentLink1URL: www.maxim-ic.com; ComponentLink2Description: Datasheet; ComponentLink2URL: http://datasheets.maxim-ic.com/en/ds/DS89C430-DS89C450.pdf
footprint P40-2 (DIP, 40-Leads, Row Spacing 15.24mm, Pitch 2.54mm, Body 52.1x14mm)
part A pins: 1 P1.0/T2 (io), 2 P1.1/T2EX (io), 3 P1.2/RXD1 (io), 4 P1.3/TXD1 (io), 5 P1.4/INT2 (io), 6 P1.5/~{INT3} (io), 7 P1.6/INT4 (io), 8 P1.7/~{INT5} (io), 9 RST (in), 10 P3.0/RXD0 (io), 11 P3.1/TXD0 (io), 12 P3.2/~{INT0} (io), 13 P3.3/~{INT1} (io), 14 P3.4/T0 (io), 15 P3.5/T1 (io), 16 P3.6/~{WR} (io), 17 P3.7/~{RD} (io), 18 XTAL2 (out), 19 XTAL1 (in), 21 P2.0(A8) (io), 22 P2.1(A9) (io), 23 P2.2(A10) (io), 24 P2.3(A11) (io), 25 P2.4(A12) (io), 26 P2.5(A13) (io), 27 P2.6(A14) (io), 28 P2.7(A15) (io), 29 ~{PSEN}, 30 ALE/~{PROG}, 31 ~{EA}, 32 P0.7(AD7) (io), 33 P0.6(AD6) (io), 34 P0.5(AD5) (io), 35 P0.4(AD4) (io), 36 P0.3(AD3) (io), 37 P0.2(AD2) (io), 38 P0.1(AD1) (io), 39 P0.0(AD0) (io)
part B pins: 20 GND (power), 40 VCC (power)

## DS89C430-MNG+
designator U?
8-bit Ultra-High-Speed Flash Microcontroller, 25 MHz Max. Clock Speed, 40-pin PDIP, -40° to + 85° C, Pb-Free; DatasheetVersion: 1/05/2009; PackageVersion: revD, 2011; PackageReference: P40+4; PackageDescription: 40-Pin Plastic Dual-In-Line, 0.6in Wide, PDIP(W), Pb-Free; Code_JEDEC: MS-011-AC; ComponentLink1Description: Manufacturer URL; ComponentLink1URL: www.maxim-ic.com; ComponentLink2Description: Datasheet; ComponentLink2URL: http://datasheets.maxim-ic.com/en/ds/DS89C430-DS89C450.pdf
footprint P40+4 (DIP, 40-Leads, Row Spacing 15.24mm, Pitch 2.54mm, Body 52.1x14mm)
part A pins: 1 P1.0/T2 (io), 2 P1.1/T2EX (io), 3 P1.2/RXD1 (io), 4 P1.3/TXD1 (io), 5 P1.4/INT2 (io), 6 P1.5/~{INT3} (io), 7 P1.6/INT4 (io), 8 P1.7/~{INT5} (io), 9 RST (in), 10 P3.0/RXD0 (io), 11 P3.1/TXD0 (io), 12 P3.2/~{INT0} (io), 13 P3.3/~{INT1} (io), 14 P3.4/T0 (io), 15 P3.5/T1 (io), 16 P3.6/~{WR} (io), 17 P3.7/~{RD} (io), 18 XTAL2 (out), 19 XTAL1 (in), 21 P2.0(A8) (io), 22 P2.1(A9) (io), 23 P2.2(A10) (io), 24 P2.3(A11) (io), 25 P2.4(A12) (io), 26 P2.5(A13) (io), 27 P2.6(A14) (io), 28 P2.7(A15) (io), 29 ~{PSEN}, 30 ALE/~{PROG}, 31 ~{EA}, 32 P0.7(AD7) (io), 33 P0.6(AD6) (io), 34 P0.5(AD5) (io), 35 P0.4(AD4) (io), 36 P0.3(AD3) (io), 37 P0.2(AD2) (io), 38 P0.1(AD1) (io), 39 P0.0(AD0) (io)
part B pins: 20 GND (power), 40 VCC (power)

## DS89C430-MNL
designator U?
8-bit Ultra-High-Speed Flash Microcontroller, 33 MHz Max. Clock Speed, 40-pin PDIP, -40° to + 85° C; DatasheetVersion: 1/05/2009; PackageVersion: revD, 2011; PackageReference: P40-2; PackageDescription: 40-Pin Plastic Dual-In-Line, 0.6in Wide, PDIP(W); Code_JEDEC: MS-011-AC; ComponentLink1Description: Manufacturer URL; ComponentLink1URL: www.maxim-ic.com; ComponentLink2Description: Datasheet; ComponentLink2URL: http://datasheets.maxim-ic.com/en/ds/DS89C430-DS89C450.pdf
footprint P40-2 (DIP, 40-Leads, Row Spacing 15.24mm, Pitch 2.54mm, Body 52.1x14mm)
part A pins: 1 P1.0/T2 (io), 2 P1.1/T2EX (io), 3 P1.2/RXD1 (io), 4 P1.3/TXD1 (io), 5 P1.4/INT2 (io), 6 P1.5/~{INT3} (io), 7 P1.6/INT4 (io), 8 P1.7/~{INT5} (io), 9 RST (in), 10 P3.0/RXD0 (io), 11 P3.1/TXD0 (io), 12 P3.2/~{INT0} (io), 13 P3.3/~{INT1} (io), 14 P3.4/T0 (io), 15 P3.5/T1 (io), 16 P3.6/~{WR} (io), 17 P3.7/~{RD} (io), 18 XTAL2 (out), 19 XTAL1 (in), 21 P2.0(A8) (io), 22 P2.1(A9) (io), 23 P2.2(A10) (io), 24 P2.3(A11) (io), 25 P2.4(A12) (io), 26 P2.5(A13) (io), 27 P2.6(A14) (io), 28 P2.7(A15) (io), 29 ~{PSEN}, 30 ALE/~{PROG}, 31 ~{EA}, 32 P0.7(AD7) (io), 33 P0.6(AD6) (io), 34 P0.5(AD5) (io), 35 P0.4(AD4) (io), 36 P0.3(AD3) (io), 37 P0.2(AD2) (io), 38 P0.1(AD1) (io), 39 P0.0(AD0) (io)
part B pins: 20 GND (power), 40 VCC (power)

## DS89C430-MNL+
designator U?
8-bit Ultra-High-Speed Flash Microcontroller, 33 MHz Max. Clock Speed, 40-pin PDIP, -40° to + 85° C, Pb-Free; DatasheetVersion: 1/05/2009; PackageVersion: revD, 2011; PackageReference: P40+2; PackageDescription: 40-Pin Plastic Dual-In-Line, 0.6in Wide, PDIP(W), Pb-Free; Code_JEDEC: MS-011-AC; ComponentLink1Description: Manufacturer URL; ComponentLink1URL: www.maxim-ic.com; ComponentLink2Description: Datasheet; ComponentLink2URL: http://datasheets.maxim-ic.com/en/ds/DS89C430-DS89C450.pdf
footprint P40+2 (DIP, 40-Leads, Row Spacing 15.24mm, Pitch 2.54mm, Body 52.1x14mm)
part A pins: 1 P1.0/T2 (io), 2 P1.1/T2EX (io), 3 P1.2/RXD1 (io), 4 P1.3/TXD1 (io), 5 P1.4/INT2 (io), 6 P1.5/~{INT3} (io), 7 P1.6/INT4 (io), 8 P1.7/~{INT5} (io), 9 RST (in), 10 P3.0/RXD0 (io), 11 P3.1/TXD0 (io), 12 P3.2/~{INT0} (io), 13 P3.3/~{INT1} (io), 14 P3.4/T0 (io), 15 P3.5/T1 (io), 16 P3.6/~{WR} (io), 17 P3.7/~{RD} (io), 18 XTAL2 (out), 19 XTAL1 (in), 21 P2.0(A8) (io), 22 P2.1(A9) (io), 23 P2.2(A10) (io), 24 P2.3(A11) (io), 25 P2.4(A12) (io), 26 P2.5(A13) (io), 27 P2.6(A14) (io), 28 P2.7(A15) (io), 29 ~{PSEN}, 30 ALE/~{PROG}, 31 ~{EA}, 32 P0.7(AD7) (io), 33 P0.6(AD6) (io), 34 P0.5(AD5) (io), 35 P0.4(AD4) (io), 36 P0.3(AD3) (io), 37 P0.2(AD2) (io), 38 P0.1(AD1) (io), 39 P0.0(AD0) (io)
part B pins: 20 GND (power), 40 VCC (power)

## DS89C430-QNG
designator U?
8-bit Ultra-High-Speed Flash Microcontroller, 25 MHz Max. Clock Speed, 44-pin PLCC, -40° to + 85° C; DatasheetVersion: 1/05/2009; PackageVersion: revE, 2009; PackageReference: Q44-7; PackageDescription: 44-Pin Plastic Leaded Chip Carrier 1.27 mm Pitch, PLCC; Code_JEDEC: MO-047-AC; Code_IPC: PLCC-44; ComponentLink1Description: Manufacturer URL; ComponentLink1URL: www.maxim-ic.com; ComponentLink2Description: Datasheet; ComponentLink2URL: http://datasheets.maxim-ic.com/en/ds/DS89C430-DS89C450.pdf
footprint Q44-7_N (Leaded Chip Carrier, 44-Leads, Body 16.6x16.6mm, Pitch 1.27mm, IPC Medium Density)
footprint Q44-7_L (Leaded Chip Carrier, 44-Leads, Body 16.6x16.6mm, Pitch 1.27mm, IPC High Density)
footprint Q44-7_M (Leaded Chip Carrier, 44-Leads, Body 16.6x16.6mm, Pitch 1.27mm, IPC Low Density)
part A pins: 2 P1.0/T2 (io), 3 P1.1/T2EX (io), 4 P1.2/RXD1 (io), 5 P1.3/TXD1 (io), 6 P1.4/INT2 (io), 7 P1.5/~{INT3} (io), 8 P1.6/INT4 (io), 9 P1.7/~{INT5} (io), 10 RST (in), 11 P3.0/RXD0 (io), 13 P3.1/TXD0 (io), 14 P3.2/~{INT0} (io), 15 P3.3/~{INT1} (io), 16 P3.4/T0 (io), 17 P3.5/T1 (io), 18 P3.6/~{WR} (io), 19 P3.7/~{RD} (io), 20 XTAL2 (out), 21 XTAL1 (in), 24 P2.0(A8) (io), 25 P2.1(A9) (io), 26 P2.2(A10) (io), 27 P2.3(A11) (io), 28 P2.4(A12) (io), 29 P2.5(A13) (io), 30 P2.6(A14) (io), 31 P2.7(A15) (io), 32 ~{PSEN}, 33 ALE/~{PROG}, 35 ~{EA}, 36 P0.7(AD7) (io), 37 P0.6(AD6) (io), 38 P0.5(AD5) (io), 39 P0.4(AD4) (io), 40 P0.3(AD3) (io), 41 P0.2(AD2) (io), 42 P0.1(AD1) (io), 43 P0.0(AD0) (io)
part B pins: 1 GND (power), 12 VCC (power), 22 GND (power), 23 GND (power), 34 GND (power), 44 VCC (power)

## DS89C430-QNG+
designator U?
8-bit Ultra-High-Speed Flash Microcontroller, 25 MHz Max. Clock Speed, 44-pin PLCC, -40° to + 85° C, Pb-Free; DatasheetVersion: 1/05/2009; PackageVersion: revE, 2009; PackageReference: Q44+7; PackageDescription: 44-Pin Plastic Leaded Chip Carrier 1.27 mm Pitch, PLCC, Pb-Free; Code_JEDEC: MO-047-AC; Code_IPC: PLCC-44; ComponentLink1Description: Manufacturer URL; ComponentLink1URL: www.maxim-ic.com; ComponentLink2Description: Datasheet; ComponentLink2URL: http://datasheets.maxim-ic.com/en/ds/DS89C430-DS89C450.pdf
footprint Q44+7_N (Leaded Chip Carrier, 44-Leads, Body 16.6x16.6mm, Pitch 1.27mm, IPC Medium Density)
footprint Q44+7_L (Leaded Chip Carrier, 44-Leads, Body 16.6x16.6mm, Pitch 1.27mm, IPC High Density)
footprint Q44+7_M (Leaded Chip Carrier, 44-Leads, Body 16.6x16.6mm, Pitch 1.27mm, IPC Low Density)
part A pins: 2 P1.0/T2 (io), 3 P1.1/T2EX (io), 4 P1.2/RXD1 (io), 5 P1.3/TXD1 (io), 6 P1.4/INT2 (io), 7 P1.5/~{INT3} (io), 8 P1.6/INT4 (io), 9 P1.7/~{INT5} (io), 10 RST (in), 11 P3.0/RXD0 (io), 13 P3.1/TXD0 (io), 14 P3.2/~{INT0} (io), 15 P3.3/~{INT1} (io), 16 P3.4/T0 (io), 17 P3.5/T1 (io), 18 P3.6/~{WR} (io), 19 P3.7/~{RD} (io), 20 XTAL2 (out), 21 XTAL1 (in), 24 P2.0(A8) (io), 25 P2.1(A9) (io), 26 P2.2(A10) (io), 27 P2.3(A11) (io), 28 P2.4(A12) (io), 29 P2.5(A13) (io), 30 P2.6(A14) (io), 31 P2.7(A15) (io), 32 ~{PSEN}, 33 ALE/~{PROG}, 35 ~{EA}, 36 P0.7(AD7) (io), 37 P0.6(AD6) (io), 38 P0.5(AD5) (io), 39 P0.4(AD4) (io), 40 P0.3(AD3) (io), 41 P0.2(AD2) (io), 42 P0.1(AD1) (io), 43 P0.0(AD0) (io)
part B pins: 1 GND (power), 12 VCC (power), 22 GND (power), 23 GND (power), 34 GND (power), 44 VCC (power)

## DS89C430-QNL
designator U?
8-bit Ultra-High-Speed Flash Microcontroller, 33 MHz Max. Clock Speed, 44-pin PLCC, -40° to + 85° C; DatasheetVersion: 1/05/2009; PackageVersion: revE, 2009; PackageReference: Q44-7; PackageDescription: 44-Pin Plastic Leaded Chip Carrier 1.27 mm Pitch, PLCC; Code_JEDEC: MO-047-AC; Code_IPC: PLCC-44; ComponentLink1Description: Manufacturer URL; ComponentLink1URL: www.maxim-ic.com; ComponentLink2Description: Datasheet; ComponentLink2URL: http://datasheets.maxim-ic.com/en/ds/DS89C430-DS89C450.pdf
footprint Q44-7_N (Leaded Chip Carrier, 44-Leads, Body 16.6x16.6mm, Pitch 1.27mm, IPC Medium Density)
footprint Q44-7_L (Leaded Chip Carrier, 44-Leads, Body 16.6x16.6mm, Pitch 1.27mm, IPC High Density)
footprint Q44-7_M (Leaded Chip Carrier, 44-Leads, Body 16.6x16.6mm, Pitch 1.27mm, IPC Low Density)
part A pins: 2 P1.0/T2 (io), 3 P1.1/T2EX (io), 4 P1.2/RXD1 (io), 5 P1.3/TXD1 (io), 6 P1.4/INT2 (io), 7 P1.5/~{INT3} (io), 8 P1.6/INT4 (io), 9 P1.7/~{INT5} (io), 10 RST (in), 11 P3.0/RXD0 (io), 13 P3.1/TXD0 (io), 14 P3.2/~{INT0} (io), 15 P3.3/~{INT1} (io), 16 P3.4/T0 (io), 17 P3.5/T1 (io), 18 P3.6/~{WR} (io), 19 P3.7/~{RD} (io), 20 XTAL2 (out), 21 XTAL1 (in), 24 P2.0(A8) (io), 25 P2.1(A9) (io), 26 P2.2(A10) (io), 27 P2.3(A11) (io), 28 P2.4(A12) (io), 29 P2.5(A13) (io), 30 P2.6(A14) (io), 31 P2.7(A15) (io), 32 ~{PSEN}, 33 ALE/~{PROG}, 35 ~{EA}, 36 P0.7(AD7) (io), 37 P0.6(AD6) (io), 38 P0.5(AD5) (io), 39 P0.4(AD4) (io), 40 P0.3(AD3) (io), 41 P0.2(AD2) (io), 42 P0.1(AD1) (io), 43 P0.0(AD0) (io)
part B pins: 1 GND (power), 12 VCC (power), 22 GND (power), 23 GND (power), 34 GND (power), 44 VCC (power)

## DS89C430-QNL+
designator U?
8-bit Ultra-High-Speed Flash Microcontroller, 33 MHz Max. Clock Speed, 44-pin PLCC, -40° to + 85° C, Pb-Free; DatasheetVersion: 1/05/2009; PackageVersion: revE, 2009; PackageReference: Q44+7; PackageDescription: 44-Pin Plastic Leaded Chip Carrier 1.27 mm Pitch, PLCC, Pb-Free; Code_JEDEC: MO-047-AC; Code_IPC: PLCC-44; ComponentLink1Description: Manufacturer URL; ComponentLink1URL: www.maxim-ic.com; ComponentLink2Description: Datasheet; ComponentLink2URL: http://datasheets.maxim-ic.com/en/ds/DS89C430-DS89C450.pdf
footprint Q44+7_N (Leaded Chip Carrier, 44-Leads, Body 16.6x16.6mm, Pitch 1.27mm, IPC Medium Density)
footprint Q44+7_L (Leaded Chip Carrier, 44-Leads, Body 16.6x16.6mm, Pitch 1.27mm, IPC High Density)
footprint Q44+7_M (Leaded Chip Carrier, 44-Leads, Body 16.6x16.6mm, Pitch 1.27mm, IPC Low Density)
part A pins: 2 P1.0/T2 (io), 3 P1.1/T2EX (io), 4 P1.2/RXD1 (io), 5 P1.3/TXD1 (io), 6 P1.4/INT2 (io), 7 P1.5/~{INT3} (io), 8 P1.6/INT4 (io), 9 P1.7/~{INT5} (io), 10 RST (in), 11 P3.0/RXD0 (io), 13 P3.1/TXD0 (io), 14 P3.2/~{INT0} (io), 15 P3.3/~{INT1} (io), 16 P3.4/T0 (io), 17 P3.5/T1 (io), 18 P3.6/~{WR} (io), 19 P3.7/~{RD} (io), 20 XTAL2 (out), 21 XTAL1 (in), 24 P2.0(A8) (io), 25 P2.1(A9) (io), 26 P2.2(A10) (io), 27 P2.3(A11) (io), 28 P2.4(A12) (io), 29 P2.5(A13) (io), 30 P2.6(A14) (io), 31 P2.7(A15) (io), 32 ~{PSEN}, 33 ALE/~{PROG}, 35 ~{EA}, 36 P0.7(AD7) (io), 37 P0.6(AD6) (io), 38 P0.5(AD5) (io), 39 P0.4(AD4) (io), 40 P0.3(AD3) (io), 41 P0.2(AD2) (io), 42 P0.1(AD1) (io), 43 P0.0(AD0) (io)
part B pins: 1 GND (power), 12 VCC (power), 22 GND (power), 23 GND (power), 34 GND (power), 44 VCC (power)

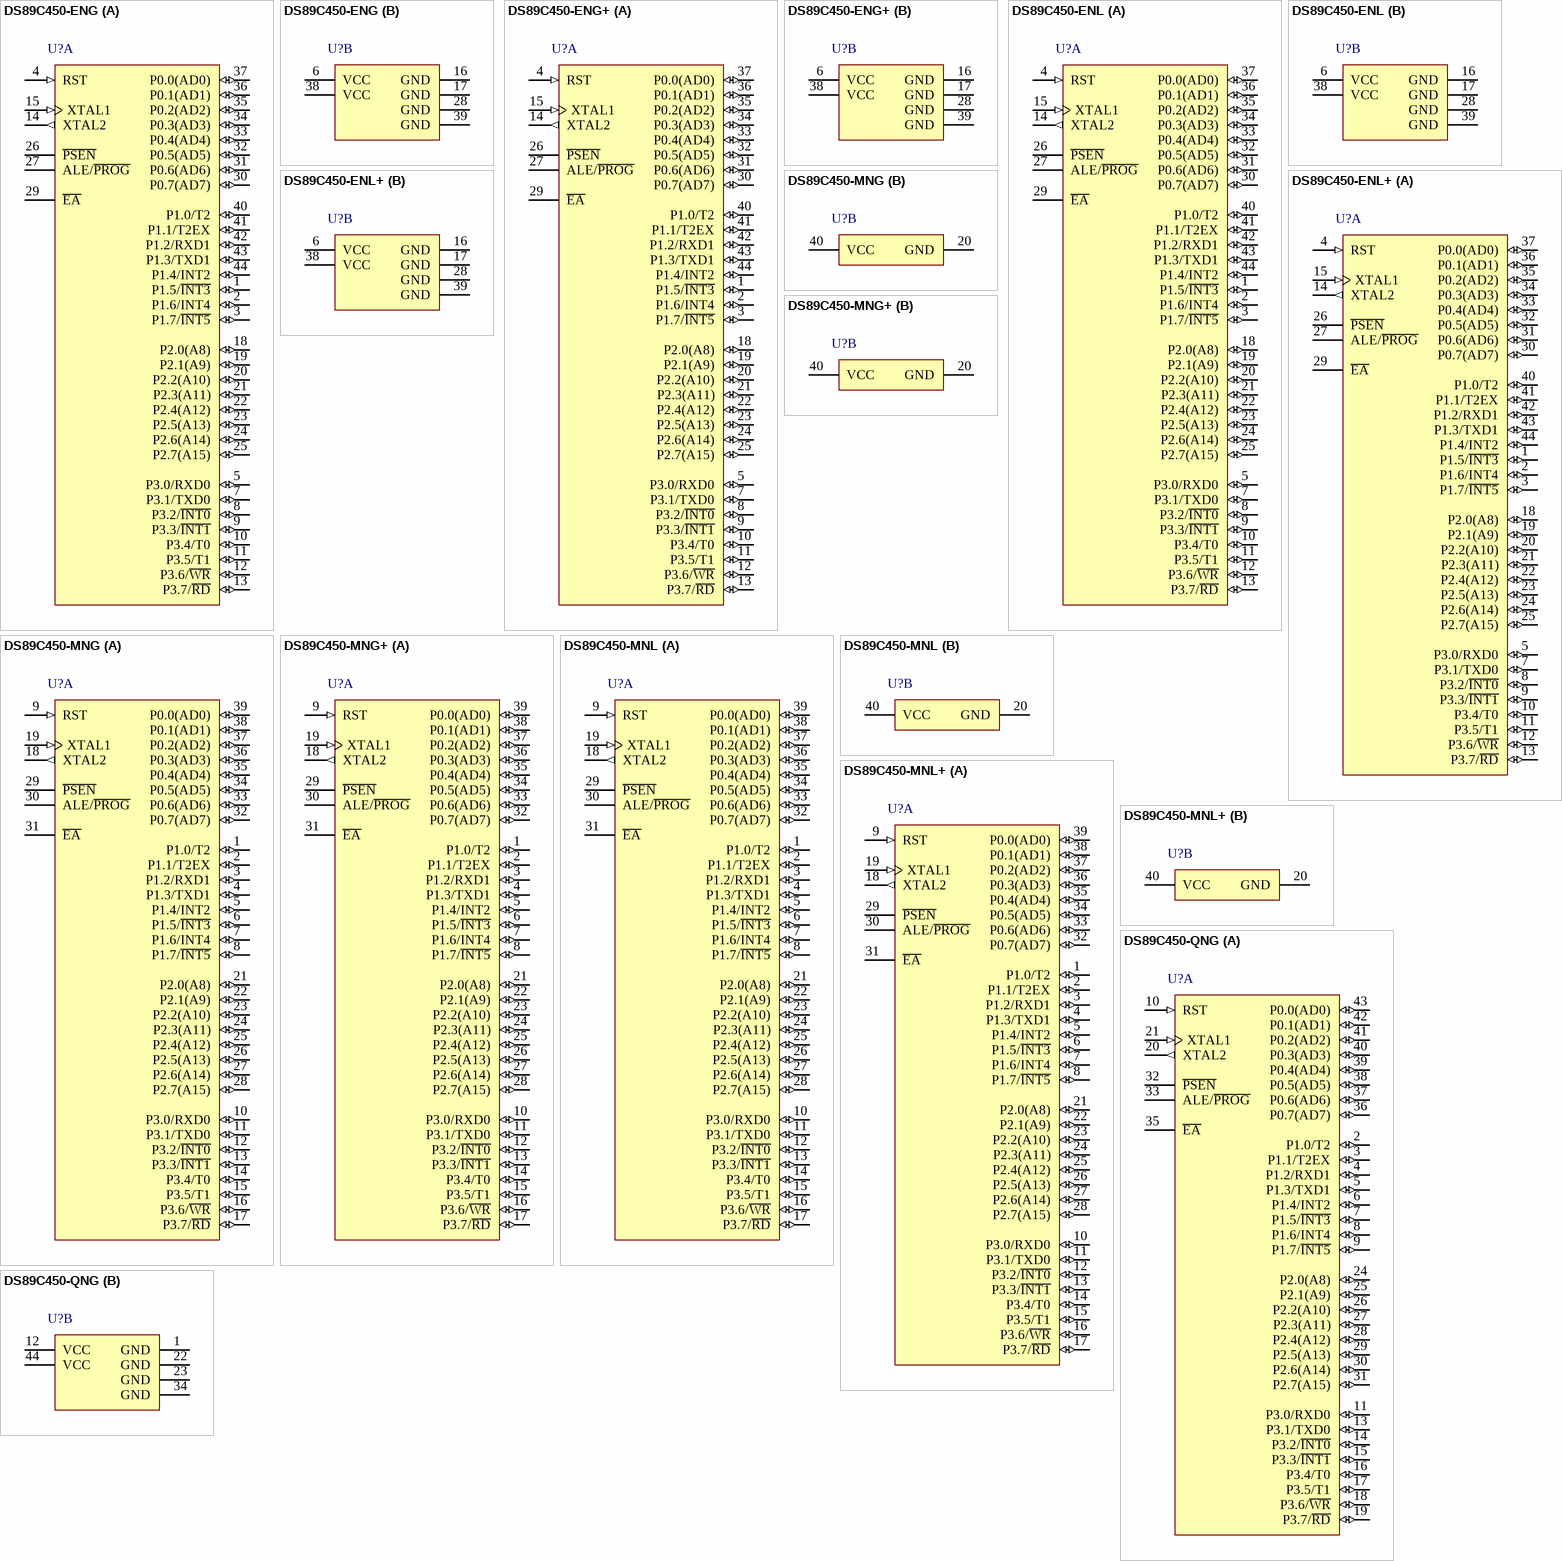
[diagram p15: symbols DS89C450-ENG to DS89C450-QNG]

## DS89C450-ENG
designator U?
8-bit Ultra-High-Speed Flash Microcontroller, 25 MHz Max. Clock Speed, 44-pin TQFP, -40° to + 85° C; DatasheetVersion: 1/05/2009; PackageVersion: revB, 2010; PackageReference: C44-2; PackageDescription: 44-Pin Thin Quad Flatpack, 10 x 10 x 1.0 mm Body, 0.8 mm Pitch, TQFP; ComponentLink1Description: Manufacturer URL; ComponentLink1URL: www.maxim-ic.com; ComponentLink2Description: Datasheet; ComponentLink2URL: http://datasheets.maxim-ic.com/en/ds/DS89C430-DS89C450.pdf
footprint C44-2_N (Thin QFP, 44-Leads, Body 10x10mm, Pitch 0.8mm, IPC Medium Density)
footprint C44-2_L (Thin QFP, 44-Leads, Body 10x10mm, Pitch 0.8mm, IPC High Density)
footprint C44-2_M (Thin QFP, 44-Leads, Body 10x10mm, Pitch 0.8mm, IPC Low Density)
part A pins: 1 P1.5/~{INT3} (io), 2 P1.6/INT4 (io), 3 P1.7/~{INT5} (io), 4 RST (in), 5 P3.0/RXD0 (io), 7 P3.1/TXD0 (io), 8 P3.2/~{INT0} (io), 9 P3.3/~{INT1} (io), 10 P3.4/T0 (io), 11 P3.5/T1 (io), 12 P3.6/~{WR} (io), 13 P3.7/~{RD} (io), 14 XTAL2 (out), 15 XTAL1 (in), 18 P2.0(A8) (io), 19 P2.1(A9) (io), 20 P2.2(A10) (io), 21 P2.3(A11) (io), 22 P2.4(A12) (io), 23 P2.5(A13) (io), 24 P2.6(A14) (io), 25 P2.7(A15) (io), 26 ~{PSEN}, 27 ALE/~{PROG}, 29 ~{EA}, 30 P0.7(AD7) (io), 31 P0.6(AD6) (io), 32 P0.5(AD5) (io), 33 P0.4(AD4) (io), 34 P0.3(AD3) (io), 35 P0.2(AD2) (io), 36 P0.1(AD1) (io), 37 P0.0(AD0) (io), 40 P1.0/T2 (io), 41 P1.1/T2EX (io), 42 P1.2/RXD1 (io), 43 P1.3/TXD1 (io), 44 P1.4/INT2 (io)
part B pins: 6 VCC (power), 16 GND (power), 17 GND (power), 28 GND (power), 38 VCC (power), 39 GND (power)

## DS89C450-ENG+
designator U?
8-bit Ultra-High-Speed Flash Microcontroller, 25 MHz Max. Clock Speed, 44-pin TQFP, -40° to + 85° C, Pb-Free; DatasheetVersion: 1/05/2009; PackageVersion: revB, 2010; PackageReference: C44+2; PackageDescription: 44-Pin Thin Quad Flatpack, 10 x 10 x 1.0 mm Body, 0.8 mm Pitch, TQFP, Pb-Free; ComponentLink1Description: Manufacturer URL; ComponentLink1URL: www.maxim-ic.com; ComponentLink2Description: Datasheet; ComponentLink2URL: http://datasheets.maxim-ic.com/en/ds/DS89C430-DS89C450.pdf
footprint C44+2_N (Thin QFP, 44-Leads, Body 10x10mm, Pitch 0.8mm, IPC Medium Density)
footprint C44+2_L (Thin QFP, 44-Leads, Body 10x10mm, Pitch 0.8mm, IPC High Density)
footprint C44+2_M (Thin QFP, 44-Leads, Body 10x10mm, Pitch 0.8mm, IPC Low Density)
part A pins: 1 P1.5/~{INT3} (io), 2 P1.6/INT4 (io), 3 P1.7/~{INT5} (io), 4 RST (in), 5 P3.0/RXD0 (io), 7 P3.1/TXD0 (io), 8 P3.2/~{INT0} (io), 9 P3.3/~{INT1} (io), 10 P3.4/T0 (io), 11 P3.5/T1 (io), 12 P3.6/~{WR} (io), 13 P3.7/~{RD} (io), 14 XTAL2 (out), 15 XTAL1 (in), 18 P2.0(A8) (io), 19 P2.1(A9) (io), 20 P2.2(A10) (io), 21 P2.3(A11) (io), 22 P2.4(A12) (io), 23 P2.5(A13) (io), 24 P2.6(A14) (io), 25 P2.7(A15) (io), 26 ~{PSEN}, 27 ALE/~{PROG}, 29 ~{EA}, 30 P0.7(AD7) (io), 31 P0.6(AD6) (io), 32 P0.5(AD5) (io), 33 P0.4(AD4) (io), 34 P0.3(AD3) (io), 35 P0.2(AD2) (io), 36 P0.1(AD1) (io), 37 P0.0(AD0) (io), 40 P1.0/T2 (io), 41 P1.1/T2EX (io), 42 P1.2/RXD1 (io), 43 P1.3/TXD1 (io), 44 P1.4/INT2 (io)
part B pins: 6 VCC (power), 16 GND (power), 17 GND (power), 28 GND (power), 38 VCC (power), 39 GND (power)

## DS89C450-ENL
designator U?
8-bit Ultra-High-Speed Flash Microcontroller, 25 MHz Max. Clock Speed, 44-pin TQFP, -40° to + 85° C; DatasheetVersion: 1/05/2009; PackageVersion: revB, 2010; PackageReference: C44-2; PackageDescription: 44-Pin Thin Quad Flatpack, 10 x 10 x 1.0 mm Body, 0.8 mm Pitch, TQFP; ComponentLink1Description: Manufacturer URL; ComponentLink1URL: www.maxim-ic.com; ComponentLink2Description: Datasheet; ComponentLink2URL: http://datasheets.maxim-ic.com/en/ds/DS89C430-DS89C450.pdf
footprint C44-2_N (Thin QFP, 44-Leads, Body 10x10mm, Pitch 0.8mm, IPC Medium Density)
footprint C44-2_L (Thin QFP, 44-Leads, Body 10x10mm, Pitch 0.8mm, IPC High Density)
footprint C44-2_M (Thin QFP, 44-Leads, Body 10x10mm, Pitch 0.8mm, IPC Low Density)
part A pins: 1 P1.5/~{INT3} (io), 2 P1.6/INT4 (io), 3 P1.7/~{INT5} (io), 4 RST (in), 5 P3.0/RXD0 (io), 7 P3.1/TXD0 (io), 8 P3.2/~{INT0} (io), 9 P3.3/~{INT1} (io), 10 P3.4/T0 (io), 11 P3.5/T1 (io), 12 P3.6/~{WR} (io), 13 P3.7/~{RD} (io), 14 XTAL2 (out), 15 XTAL1 (in), 18 P2.0(A8) (io), 19 P2.1(A9) (io), 20 P2.2(A10) (io), 21 P2.3(A11) (io), 22 P2.4(A12) (io), 23 P2.5(A13) (io), 24 P2.6(A14) (io), 25 P2.7(A15) (io), 26 ~{PSEN}, 27 ALE/~{PROG}, 29 ~{EA}, 30 P0.7(AD7) (io), 31 P0.6(AD6) (io), 32 P0.5(AD5) (io), 33 P0.4(AD4) (io), 34 P0.3(AD3) (io), 35 P0.2(AD2) (io), 36 P0.1(AD1) (io), 37 P0.0(AD0) (io), 40 P1.0/T2 (io), 41 P1.1/T2EX (io), 42 P1.2/RXD1 (io), 43 P1.3/TXD1 (io), 44 P1.4/INT2 (io)
part B pins: 6 VCC (power), 16 GND (power), 17 GND (power), 28 GND (power), 38 VCC (power), 39 GND (power)

## DS89C450-ENL+
designator U?
8-bit Ultra-High-Speed Flash Microcontroller, 25 MHz Max. Clock Speed, 44-pin TQFP, -40° to + 85° C, Pb-Free; DatasheetVersion: 1/05/2009; PackageVersion: revB, 2010; PackageReference: C44+2; PackageDescription: 44-Pin Thin Quad Flatpack, 10 x 10 x 1.0 mm Body, 0.8 mm Pitch, TQFP, Pb-Free; ComponentLink1Description: Manufacturer URL; ComponentLink1URL: www.maxim-ic.com; ComponentLink2Description: Datasheet; ComponentLink2URL: http://datasheets.maxim-ic.com/en/ds/DS89C430-DS89C450.pdf
footprint C44+2_N (Thin QFP, 44-Leads, Body 10x10mm, Pitch 0.8mm, IPC Medium Density)
footprint C44+2_L (Thin QFP, 44-Leads, Body 10x10mm, Pitch 0.8mm, IPC High Density)
footprint C44+2_M (Thin QFP, 44-Leads, Body 10x10mm, Pitch 0.8mm, IPC Low Density)
part A pins: 1 P1.5/~{INT3} (io), 2 P1.6/INT4 (io), 3 P1.7/~{INT5} (io), 4 RST (in), 5 P3.0/RXD0 (io), 7 P3.1/TXD0 (io), 8 P3.2/~{INT0} (io), 9 P3.3/~{INT1} (io), 10 P3.4/T0 (io), 11 P3.5/T1 (io), 12 P3.6/~{WR} (io), 13 P3.7/~{RD} (io), 14 XTAL2 (out), 15 XTAL1 (in), 18 P2.0(A8) (io), 19 P2.1(A9) (io), 20 P2.2(A10) (io), 21 P2.3(A11) (io), 22 P2.4(A12) (io), 23 P2.5(A13) (io), 24 P2.6(A14) (io), 25 P2.7(A15) (io), 26 ~{PSEN}, 27 ALE/~{PROG}, 29 ~{EA}, 30 P0.7(AD7) (io), 31 P0.6(AD6) (io), 32 P0.5(AD5) (io), 33 P0.4(AD4) (io), 34 P0.3(AD3) (io), 35 P0.2(AD2) (io), 36 P0.1(AD1) (io), 37 P0.0(AD0) (io), 40 P1.0/T2 (io), 41 P1.1/T2EX (io), 42 P1.2/RXD1 (io), 43 P1.3/TXD1 (io), 44 P1.4/INT2 (io)
part B pins: 6 VCC (power), 16 GND (power), 17 GND (power), 28 GND (power), 38 VCC (power), 39 GND (power)

## DS89C450-MNG
designator U?
8-bit Ultra-High-Speed Flash Microcontroller, 25 MHz Max. Clock Speed, 40-pin PDIP, -40° to + 85° C; DatasheetVersion: 1/05/2009; PackageVersion: revD, 2011; PackageReference: P40-2; PackageDescription: 40-Pin Plastic Dual-In-Line, 0.6in Wide, PDIP(W); Code_JEDEC: MS-011-AC; ComponentLink1Description: Manufacturer URL; ComponentLink1URL: www.maxim-ic.com; ComponentLink2Description: Datasheet; ComponentLink2URL: http://datasheets.maxim-ic.com/en/ds/DS89C430-DS89C450.pdf
footprint P40-2 (DIP, 40-Leads, Row Spacing 15.24mm, Pitch 2.54mm, Body 52.1x14mm)
part A pins: 1 P1.0/T2 (io), 2 P1.1/T2EX (io), 3 P1.2/RXD1 (io), 4 P1.3/TXD1 (io), 5 P1.4/INT2 (io), 6 P1.5/~{INT3} (io), 7 P1.6/INT4 (io), 8 P1.7/~{INT5} (io), 9 RST (in), 10 P3.0/RXD0 (io), 11 P3.1/TXD0 (io), 12 P3.2/~{INT0} (io), 13 P3.3/~{INT1} (io), 14 P3.4/T0 (io), 15 P3.5/T1 (io), 16 P3.6/~{WR} (io), 17 P3.7/~{RD} (io), 18 XTAL2 (out), 19 XTAL1 (in), 21 P2.0(A8) (io), 22 P2.1(A9) (io), 23 P2.2(A10) (io), 24 P2.3(A11) (io), 25 P2.4(A12) (io), 26 P2.5(A13) (io), 27 P2.6(A14) (io), 28 P2.7(A15) (io), 29 ~{PSEN}, 30 ALE/~{PROG}, 31 ~{EA}, 32 P0.7(AD7) (io), 33 P0.6(AD6) (io), 34 P0.5(AD5) (io), 35 P0.4(AD4) (io), 36 P0.3(AD3) (io), 37 P0.2(AD2) (io), 38 P0.1(AD1) (io), 39 P0.0(AD0) (io)
part B pins: 20 GND (power), 40 VCC (power)

## DS89C450-MNG+
designator U?
8-bit Ultra-High-Speed Flash Microcontroller, 25 MHz Max. Clock Speed, 40-pin PDIP, -40° to + 85° C, Pb-Free; DatasheetVersion: 1/05/2009; PackageVersion: revD, 2011; PackageReference: P40+2; PackageDescription: 40-Pin Plastic Dual-In-Line, 0.6in Wide, PDIP(W), Pb-Free; Code_JEDEC: MS-011-AC; ComponentLink1Description: Manufacturer URL; ComponentLink1URL: www.maxim-ic.com; ComponentLink2Description: Datasheet; ComponentLink2URL: http://datasheets.maxim-ic.com/en/ds/DS89C430-DS89C450.pdf
footprint P40+2 (DIP, 40-Leads, Row Spacing 15.24mm, Pitch 2.54mm, Body 52.1x14mm)
part A pins: 1 P1.0/T2 (io), 2 P1.1/T2EX (io), 3 P1.2/RXD1 (io), 4 P1.3/TXD1 (io), 5 P1.4/INT2 (io), 6 P1.5/~{INT3} (io), 7 P1.6/INT4 (io), 8 P1.7/~{INT5} (io), 9 RST (in), 10 P3.0/RXD0 (io), 11 P3.1/TXD0 (io), 12 P3.2/~{INT0} (io), 13 P3.3/~{INT1} (io), 14 P3.4/T0 (io), 15 P3.5/T1 (io), 16 P3.6/~{WR} (io), 17 P3.7/~{RD} (io), 18 XTAL2 (out), 19 XTAL1 (in), 21 P2.0(A8) (io), 22 P2.1(A9) (io), 23 P2.2(A10) (io), 24 P2.3(A11) (io), 25 P2.4(A12) (io), 26 P2.5(A13) (io), 27 P2.6(A14) (io), 28 P2.7(A15) (io), 29 ~{PSEN}, 30 ALE/~{PROG}, 31 ~{EA}, 32 P0.7(AD7) (io), 33 P0.6(AD6) (io), 34 P0.5(AD5) (io), 35 P0.4(AD4) (io), 36 P0.3(AD3) (io), 37 P0.2(AD2) (io), 38 P0.1(AD1) (io), 39 P0.0(AD0) (io)
part B pins: 20 GND (power), 40 VCC (power)

## DS89C450-MNL
designator U?
8-bit Ultra-High-Speed Flash Microcontroller, 25 MHz Max. Clock Speed, 40-pin PDIP, -40° to + 85° C; DatasheetVersion: 1/05/2009; PackageVersion: revD, 2011; PackageReference: P40-2; PackageDescription: 40-Pin Plastic Dual-In-Line, 0.6in Wide, PDIP(W); Code_JEDEC: MS-011-AC; ComponentLink1Description: Manufacturer URL; ComponentLink1URL: www.maxim-ic.com; ComponentLink2Description: Datasheet; ComponentLink2URL: http://datasheets.maxim-ic.com/en/ds/DS89C430-DS89C450.pdf
footprint P40-2 (DIP, 40-Leads, Row Spacing 15.24mm, Pitch 2.54mm, Body 52.1x14mm)
part A pins: 1 P1.0/T2 (io), 2 P1.1/T2EX (io), 3 P1.2/RXD1 (io), 4 P1.3/TXD1 (io), 5 P1.4/INT2 (io), 6 P1.5/~{INT3} (io), 7 P1.6/INT4 (io), 8 P1.7/~{INT5} (io), 9 RST (in), 10 P3.0/RXD0 (io), 11 P3.1/TXD0 (io), 12 P3.2/~{INT0} (io), 13 P3.3/~{INT1} (io), 14 P3.4/T0 (io), 15 P3.5/T1 (io), 16 P3.6/~{WR} (io), 17 P3.7/~{RD} (io), 18 XTAL2 (out), 19 XTAL1 (in), 21 P2.0(A8) (io), 22 P2.1(A9) (io), 23 P2.2(A10) (io), 24 P2.3(A11) (io), 25 P2.4(A12) (io), 26 P2.5(A13) (io), 27 P2.6(A14) (io), 28 P2.7(A15) (io), 29 ~{PSEN}, 30 ALE/~{PROG}, 31 ~{EA}, 32 P0.7(AD7) (io), 33 P0.6(AD6) (io), 34 P0.5(AD5) (io), 35 P0.4(AD4) (io), 36 P0.3(AD3) (io), 37 P0.2(AD2) (io), 38 P0.1(AD1) (io), 39 P0.0(AD0) (io)
part B pins: 20 GND (power), 40 VCC (power)

## DS89C450-MNL+
designator U?
8-bit Ultra-High-Speed Flash Microcontroller, 25 MHz Max. Clock Speed, 40-pin PDIP, -40° to + 85° C, Pb-Free; DatasheetVersion: 1/05/2009; PackageVersion: revD, 2011; PackageReference: P40+2; PackageDescription: 40-Pin Plastic Dual-In-Line, 0.6in Wide, PDIP(W), Pb-Free; Code_JEDEC: MS-011-AC; ComponentLink1Description: Manufacturer URL; ComponentLink1URL: www.maxim-ic.com; ComponentLink2Description: Datasheet; ComponentLink2URL: http://datasheets.maxim-ic.com/en/ds/DS89C430-DS89C450.pdf
footprint P40+2 (DIP, 40-Leads, Row Spacing 15.24mm, Pitch 2.54mm, Body 52.1x14mm)
part A pins: 1 P1.0/T2 (io), 2 P1.1/T2EX (io), 3 P1.2/RXD1 (io), 4 P1.3/TXD1 (io), 5 P1.4/INT2 (io), 6 P1.5/~{INT3} (io), 7 P1.6/INT4 (io), 8 P1.7/~{INT5} (io), 9 RST (in), 10 P3.0/RXD0 (io), 11 P3.1/TXD0 (io), 12 P3.2/~{INT0} (io), 13 P3.3/~{INT1} (io), 14 P3.4/T0 (io), 15 P3.5/T1 (io), 16 P3.6/~{WR} (io), 17 P3.7/~{RD} (io), 18 XTAL2 (out), 19 XTAL1 (in), 21 P2.0(A8) (io), 22 P2.1(A9) (io), 23 P2.2(A10) (io), 24 P2.3(A11) (io), 25 P2.4(A12) (io), 26 P2.5(A13) (io), 27 P2.6(A14) (io), 28 P2.7(A15) (io), 29 ~{PSEN}, 30 ALE/~{PROG}, 31 ~{EA}, 32 P0.7(AD7) (io), 33 P0.6(AD6) (io), 34 P0.5(AD5) (io), 35 P0.4(AD4) (io), 36 P0.3(AD3) (io), 37 P0.2(AD2) (io), 38 P0.1(AD1) (io), 39 P0.0(AD0) (io)
part B pins: 20 GND (power), 40 VCC (power)

## DS89C450-QNG
designator U?
8-bit Ultra-High-Speed Flash Microcontroller, 25 MHz Max. Clock Speed, 44-pin PLCC, -40° to + 85° C; DatasheetVersion: 1/05/2009; PackageVersion: revE, 2009; PackageReference: Q44-7; PackageDescription: 44-Pin Plastic Leaded Chip Carrier 1.27 mm Pitch, PLCC; Code_JEDEC: MO-047-AC; Code_IPC: PLCC-44; ComponentLink1Description: Manufacturer URL; ComponentLink1URL: www.maxim-ic.com; ComponentLink2Description: Datasheet; ComponentLink2URL: http://datasheets.maxim-ic.com/en/ds/DS89C430-DS89C450.pdf
footprint Q44-7_N (Leaded Chip Carrier, 44-Leads, Body 16.6x16.6mm, Pitch 1.27mm, IPC Medium Density)
footprint Q44-7_L (Leaded Chip Carrier, 44-Leads, Body 16.6x16.6mm, Pitch 1.27mm, IPC High Density)
footprint Q44-7_M (Leaded Chip Carrier, 44-Leads, Body 16.6x16.6mm, Pitch 1.27mm, IPC Low Density)
part A pins: 2 P1.0/T2 (io), 3 P1.1/T2EX (io), 4 P1.2/RXD1 (io), 5 P1.3/TXD1 (io), 6 P1.4/INT2 (io), 7 P1.5/~{INT3} (io), 8 P1.6/INT4 (io), 9 P1.7/~{INT5} (io), 10 RST (in), 11 P3.0/RXD0 (io), 13 P3.1/TXD0 (io), 14 P3.2/~{INT0} (io), 15 P3.3/~{INT1} (io), 16 P3.4/T0 (io), 17 P3.5/T1 (io), 18 P3.6/~{WR} (io), 19 P3.7/~{RD} (io), 20 XTAL2 (out), 21 XTAL1 (in), 24 P2.0(A8) (io), 25 P2.1(A9) (io), 26 P2.2(A10) (io), 27 P2.3(A11) (io), 28 P2.4(A12) (io), 29 P2.5(A13) (io), 30 P2.6(A14) (io), 31 P2.7(A15) (io), 32 ~{PSEN}, 33 ALE/~{PROG}, 35 ~{EA}, 36 P0.7(AD7) (io), 37 P0.6(AD6) (io), 38 P0.5(AD5) (io), 39 P0.4(AD4) (io), 40 P0.3(AD3) (io), 41 P0.2(AD2) (io), 42 P0.1(AD1) (io), 43 P0.0(AD0) (io)
part B pins: 1 GND (power), 12 VCC (power), 22 GND (power), 23 GND (power), 34 GND (power), 44 VCC (power)

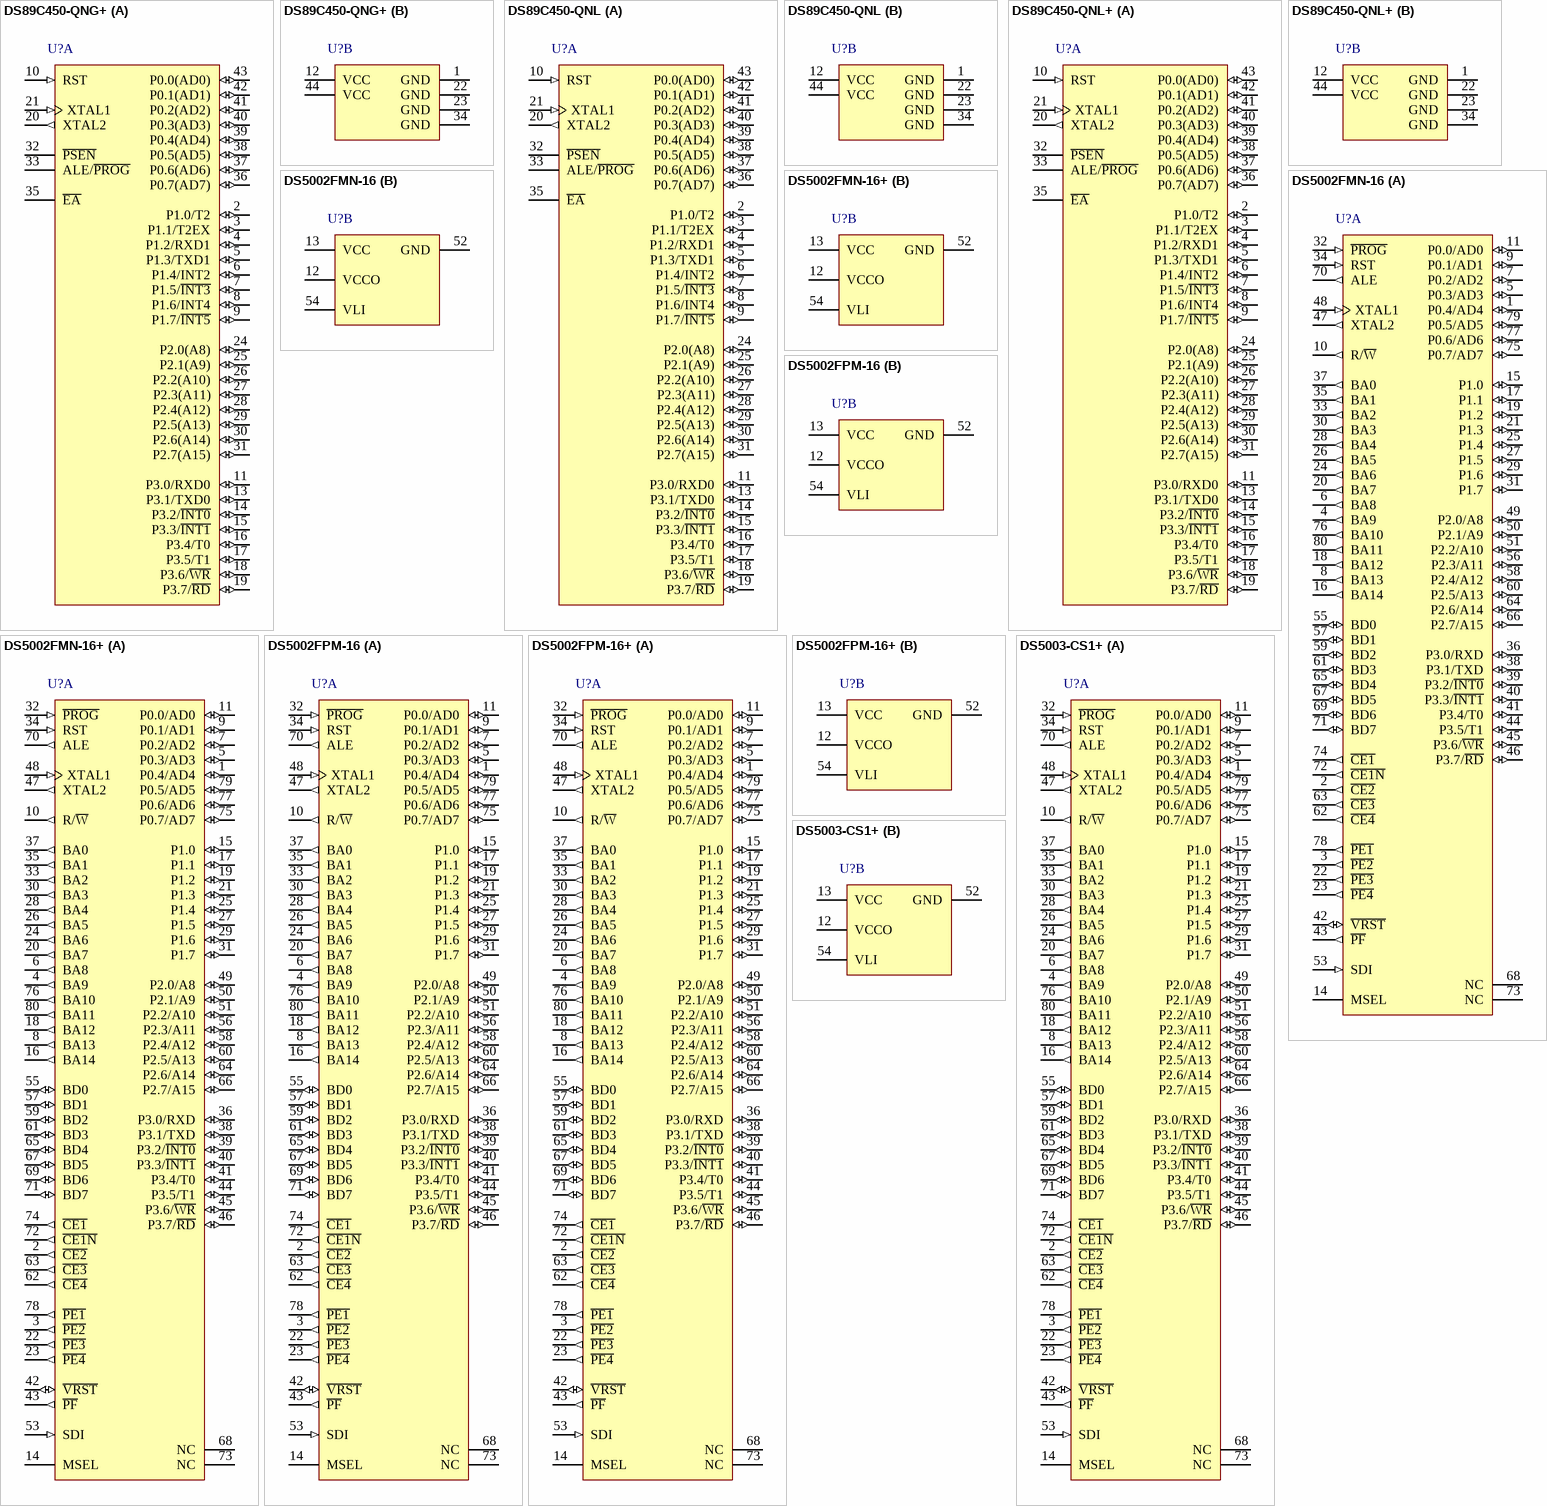
[diagram p16: symbols DS89C450-QNG+ to DS5003-CS1+]

## DS89C450-QNG+
designator U?
8-bit Ultra-High-Speed Flash Microcontroller, 25 MHz Max. Clock Speed, 44-pin PLCC, -40° to + 85° C, Pb-Free; DatasheetVersion: 1/05/2009; PackageVersion: revE, 2009; PackageReference: Q44+7; PackageDescription: 44-Pin Plastic Leaded Chip Carrier 1.27 mm Pitch, PLCC, Pb-Free; Code_JEDEC: MO-047-AC; Code_IPC: PLCC-44; ComponentLink1Description: Manufacturer URL; ComponentLink1URL: www.maxim-ic.com; ComponentLink2Description: Datasheet; ComponentLink2URL: http://datasheets.maxim-ic.com/en/ds/DS89C430-DS89C450.pdf
footprint Q44+7_N (Leaded Chip Carrier, 44-Leads, Body 16.6x16.6mm, Pitch 1.27mm, IPC Medium Density)
footprint Q44+7_L (Leaded Chip Carrier, 44-Leads, Body 16.6x16.6mm, Pitch 1.27mm, IPC High Density)
footprint Q44+7_M (Leaded Chip Carrier, 44-Leads, Body 16.6x16.6mm, Pitch 1.27mm, IPC Low Density)
part A pins: 2 P1.0/T2 (io), 3 P1.1/T2EX (io), 4 P1.2/RXD1 (io), 5 P1.3/TXD1 (io), 6 P1.4/INT2 (io), 7 P1.5/~{INT3} (io), 8 P1.6/INT4 (io), 9 P1.7/~{INT5} (io), 10 RST (in), 11 P3.0/RXD0 (io), 13 P3.1/TXD0 (io), 14 P3.2/~{INT0} (io), 15 P3.3/~{INT1} (io), 16 P3.4/T0 (io), 17 P3.5/T1 (io), 18 P3.6/~{WR} (io), 19 P3.7/~{RD} (io), 20 XTAL2 (out), 21 XTAL1 (in), 24 P2.0(A8) (io), 25 P2.1(A9) (io), 26 P2.2(A10) (io), 27 P2.3(A11) (io), 28 P2.4(A12) (io), 29 P2.5(A13) (io), 30 P2.6(A14) (io), 31 P2.7(A15) (io), 32 ~{PSEN}, 33 ALE/~{PROG}, 35 ~{EA}, 36 P0.7(AD7) (io), 37 P0.6(AD6) (io), 38 P0.5(AD5) (io), 39 P0.4(AD4) (io), 40 P0.3(AD3) (io), 41 P0.2(AD2) (io), 42 P0.1(AD1) (io), 43 P0.0(AD0) (io)
part B pins: 1 GND (power), 12 VCC (power), 22 GND (power), 23 GND (power), 34 GND (power), 44 VCC (power)